# Altium integrated library Altera APEX 20K.IntLib: 93 symbols (part 6 of 14)
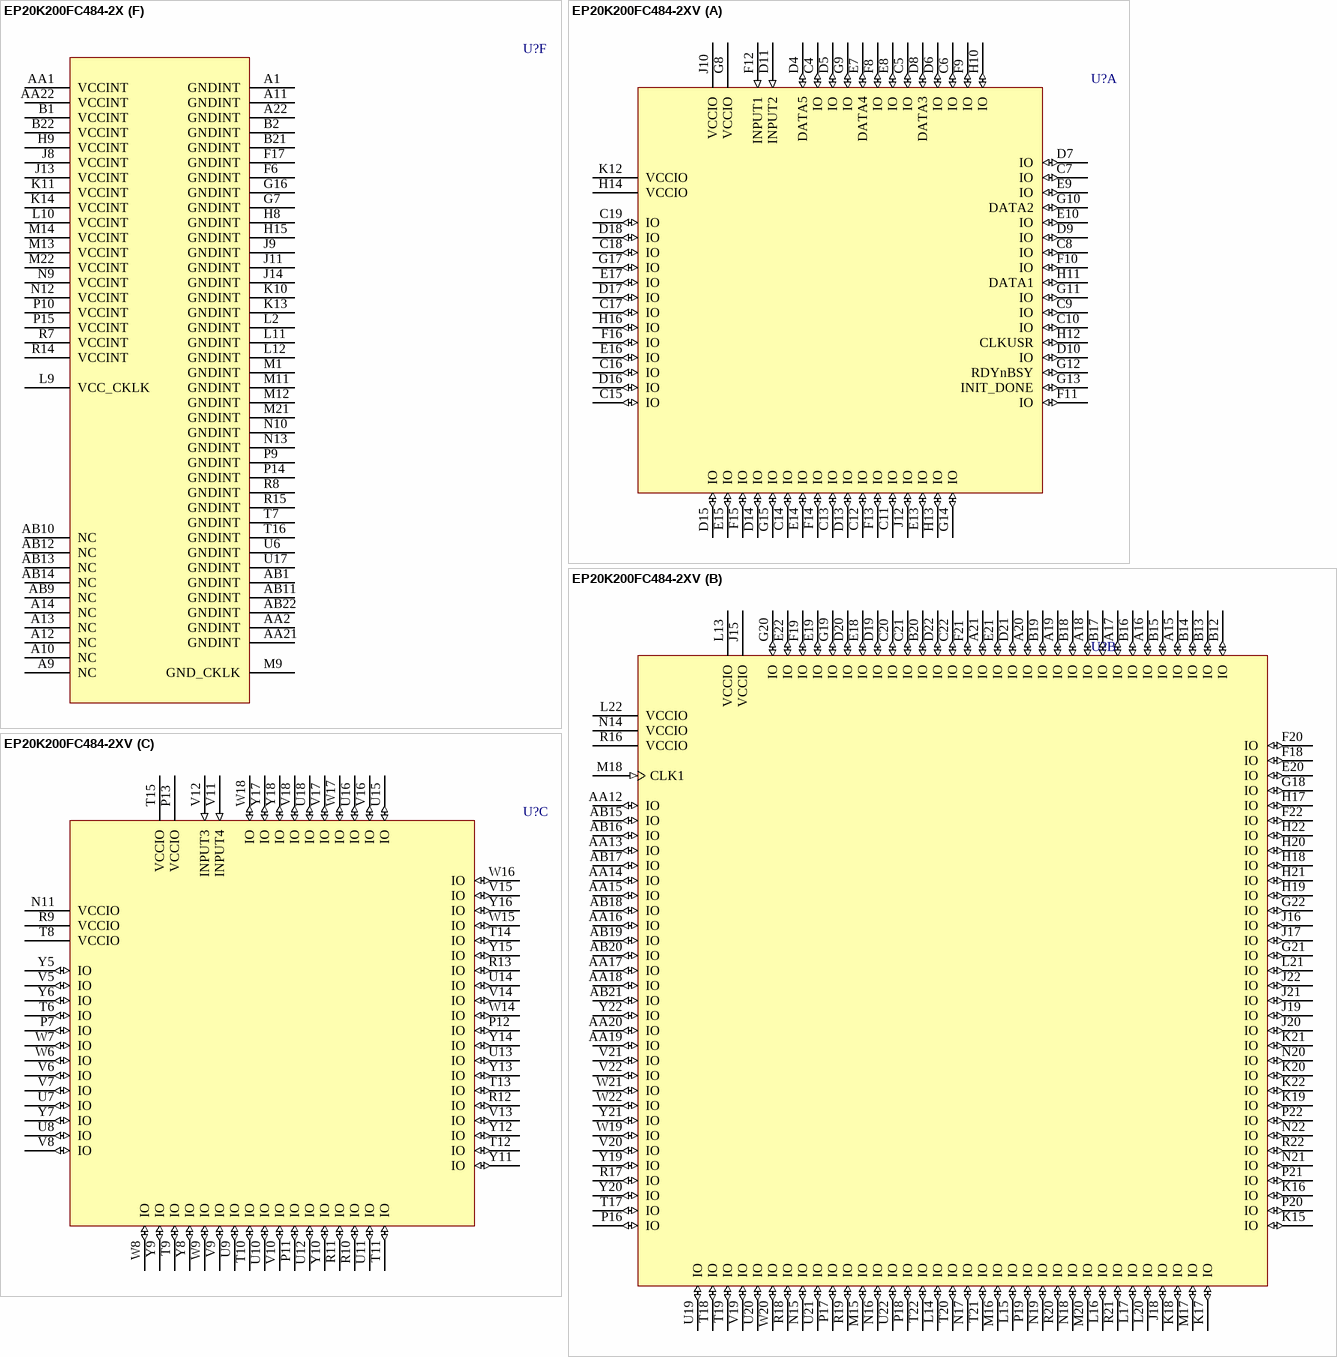
[diagram p207: symbols EP20K200FC484-2X to EP20K200FC484-2XV]

## EP20K200FC484-2X
designator U?
APEX 20K200 PLD with PLLs, 484-Pin FBGA, Commercial Grade, Speed Grade 2; Published: 17-Jul-2002; LatestRevisionDate: 13-Apr-2006; LatestRevisionNote: IPC-7351 Footprint Added.; DatasheetVersion: ver5.1, Mar-2004; PackageVersion: ver16.0, Dec-2009; PackageReference: FBGA484; Publisher: Altium Limited; PackageDescription: 484-Ball FineLine Ball Grid Array (FBGA484) - Flip Chip; Code_JEDEC: MS-034-AAJ-1; Code_IPC: BGA100P22X22-484; ComponentLink1Description: Manufacturer Link; ComponentLink1URL: http://www.altera.com/products/devices/apex/apx-index.html; ComponentLink2Description: Datasheet; ComponentLink2URL: http://www.altera.com/literature/ds/apex.pdf
footprint FBGA484 (BGA, 484-Leads, Body 23x23mm, Pitch 1mm)
3D model EP20K200-FBGA484 (484-Ball FineLine Ball Grid Array (FBGA484) - Flip Chip)
part A pins: C4 IO (io), C5 IO (io), C6 IO (io), C7 IO (io), C8 IO (io), C9 IO (io), C10 IO (io), C11 IO (io), C12 IO (io), C13 IO (io), C14 IO (io), C15 IO (io), C16 IO (io), C17 IO (io), C18 IO (io), C19 IO (io), D4 DATA5 (io), D5 IO (io), D6 IO (io), D7 IO (io), D8 DATA3 (io), D9 IO (io), D10 IO (io), D11 INPUT2 (in), D13 IO (io), D14 IO (io), D15 IO (io), D16 IO (io), D17 IO (io), D18 IO (io), E7 DATA4 (io), E8 IO (io), E9 IO (io), E10 IO (io), E13 IO (io), E14 IO (io), E15 IO (io), E16 IO (io), E17 IO (io), F8 IO (io), F9 IO (io), F10 IO (io), F11 IO (io), F12 INPUT1 (in), F13 IO (io), F14 IO (io), F15 IO (io), F16 IO (io), G8 VCCIO (power), G9 IO (io), G10 DATA2 (io), G11 IO (io), G12 RDYnBSY (io), G13 INIT_DONE (io), G14 IO (io), G15 IO (io), G17 IO (io), H10 IO (io), H11 DATA1 (io), H12 CLKUSR (io), H13 IO (io), H14 VCCIO (power), H16 IO (io), J10 VCCIO (power), J12 IO (io), K12 VCCIO (power)
part B pins: A15 IO (io), A16 IO (io), A17 IO (io), A18 IO (io), A19 IO (io), A20 IO (io), A21 IO (io), AA12 IO (io), AA13 IO (io), AA14 IO (io), AA15 IO (io), AA16 IO (io), AA17 IO (io), AA18 IO (io), AA19 IO (io), AA20 IO (io), AB15 IO (io), AB16 IO (io), AB17 IO (io), AB18 IO (io), AB19 IO (io), AB20 IO (io), AB21 IO (io), B12 IO (io), B13 IO (io), B14 IO (io), B15 IO (io), B16 IO (io), B17 IO (io), B18 IO (io), B19 IO (io), B20 IO (io), C20 IO (io), C21 IO (io), C22 IO (io), D19 IO (io), D20 IO (io), D21 IO (io), D22 IO (io), E18 IO (io), E19 IO (io), E20 IO (io), E21 IO (io), E22 IO (io), F18 IO (io), F19 IO (io), F20 IO (io), F21 IO (io), F22 IO (io), G18 IO (io), G19 IO (io), G20 IO (io), G21 IO (io), G22 IO (io), H17 IO (io), H18 IO (io), H19 IO (io), H20 IO (io), H21 IO (io), H22 IO (io), J15 VCCIO (power), J16 IO (io), J17 IO (io), J18 IO (io), J19 IO (io), J20 IO (io), J21 IO (io), J22 IO (io), K15 IO (io), K16 IO (io), K17 IO (io), K18 IO (io), K19 IO (io), K20 IO (io), K21 IO (io), K22 IO (io), L13 VCCIO (power), L14 IO (io), L15 IO (io), L16 IO (io), L17 IO (io), L20 IO (io), L21 IO (io), L22 VCCIO (power), M15 IO (io), M16 IO (io), M17 IO (io), M18 CLK1 (in), M20 IO (io), N14 VCCIO (power), N15 IO (io), N16 IO (io), N17 IO (io), N18 IO (io), N19 IO (io), N20 IO (io), N21 IO (io), N22 IO (io), P16 IO (io), P17 IO (io), P18 IO (io), P19 IO (io), P20 IO (io), P21 IO (io), P22 IO (io), R16 VCCIO (power), R17 IO (io), R18 IO (io), R19 IO (io), R20 IO (io), R21 IO (io), R22 IO (io), T17 IO (io), T18 IO (io), T19 IO (io), T20 IO (io), T21 IO (io), T22 IO (io), U19 IO (io), U20 IO (io), U21 IO (io), U22 IO (io), V19 IO (io), V20 IO (io), V21 IO (io), V22 IO (io), W19 IO (io), W20 IO (io), W21 IO (io), W22 IO (io), Y19 IO (io), Y20 IO (io), Y21 IO (io), Y22 IO (io)
part C pins: N11 VCCIO (power), P7 IO (io), P11 IO (io), P12 IO (io), P13 VCCIO (power), R9 VCCIO (power), R10 IO (io), R11 IO (io), R12 IO (io), R13 IO (io), T6 IO (io), T8 VCCIO (power), T9 IO (io), T10 IO (io), T11 IO (io), T12 IO (io), T13 IO (io), T14 IO (io), T15 VCCIO (power), U7 IO (io), U8 IO (io), U9 IO (io), U10 IO (io), U11 IO (io), U12 IO (io), U13 IO (io), U14 IO (io), U15 IO (io), U16 IO (io), U18 IO (io), V5 IO (io), V6 IO (io), V7 IO (io), V8 IO (io), V9 IO (io), V10 IO (io), V11 INPUT4 (in), V12 INPUT3 (in), V13 IO (io), V14 IO (io), V15 IO (io), V16 IO (io), V17 IO (io), V18 IO (io), W6 IO (io), W7 IO (io), W8 IO (io), W9 IO (io), W14 IO (io), W15 IO (io), W16 IO (io), W17 IO (io), W18 IO (io), Y5 IO (io), Y6 IO (io), Y7 IO (io), Y8 IO (io), Y9 IO (io), Y10 IO (io), Y11 IO (io), Y12 IO (io), Y13 IO (io), Y14 IO (io), Y15 IO (io), Y16 IO (io), Y17 IO (io), Y18 IO (io)
part D pins: A2 IO (io), A3 IO (io), A4 IO (io), A5 IO (io), A6 IO (io), A7 IO (io), A8 IO (io), AA3 IO (io), AA4 IO (io), AA5 IO (io), AA6 IO (io), AA7 IO (io), AA8 IO (io), AA9 IO (io), AA10 IO (io), AA11 IO (io), AB2 IO (io), AB3 IO (io), AB4 IO (io), AB5 IO (io), AB6 IO (io), AB7 IO (io), AB8 IO (io), B3 IO (io), B4 IO (io), B5 IO (io), B6 IO (io), B7 IO (io), B8 IO (io), B9 IO (io), B10 IO (io), B11 IO (io), C1 IO (io), C2 IO (io), C3 IO (io), D1 IO (io), D2 IO (io), D3 IO (io), E1 IO (io), E2 IO (io), E3 IO (io), E4 IO (io), E5 IO (io), E6 IO (io), F1 IO (io), F2 IO (io), F3 IO (io), F4 IO (io), F5 IO (io), F7 IO (io), G1 IO (io), G2 IO (io), G3 IO (io), G4 IO (io), G5 IO (io), G6 IO (io), H1 IO (io), H2 IO (io), H3 IO (io), H4 IO (io), H5 IO (io), H6 IO (io), H7 VCCIO (power), J1 IO (io), J2 IO (io), J3 IO (io), J4 IO (io), J5 IO (io), J6 DATA6 (io), J7 IO (io), K1 IO (io), K2 IO (io), K3 IO (io), K4 IO (io), K5 IO (io), K6 IO (io), K7 nCS (io), K8 DATA7 (io), K9 VCCIO (power), L1 VCCIO (power), L3 IO (io), L6 CLK2 (in), L7 IO (io), L8 nRS (io), M2 IO (io), M3 IO (io), M6 IO (io), M7 nWS (io), M8 IO (io), M10 VCCIO (power), N1 IO (io), N2 IO (io), N3 IO (io), N4 IO (io), N5 IO (io), N6 DEV_OE (io), N7 DEV_CLRn (io), N8 IO (io), P1 IO (io), P2 IO (io), P3 IO (io), P4 CS (io), P5 IO (io), P6 IO (io), P8 VCCIO (power), R1 IO (io), R2 IO (io), R3 IO (io), R4 LOCK (io), R5 IO (io), R6 IO (io), T1 IO (io), T2 IO (io), T3 IO (io), T4 IO (io), T5 IO (io), U1 IO (io), U2 IO (io), U3 IO (io), U4 IO (io), U5 IO (io), V1 IO (io), V2 IO (io), V3 IO (io), V4 IO (io), W1 IO (io), W2 IO (io), W3 IO (io), W4 IO (io), W5 IO (io), Y1 IO (io), Y2 IO (io), Y3 IO (io), Y4 IO (io)
part E pins: D12 TRST (in), E11 TDO (out), E12 nCEO (out), L4 DATA0 (in), L5 DCLK (in), L18 MSEL1 (in), L19 MSEL0 (in), M4 nCE (in), M5 TDI (in), M19 nCONFIG (in), W10 CONF_DONE (io), W11 nSTATUS (io), W12 TCK (in), W13 TMS (in)
part F pins: A1 GNDINT (power), A9 NC, A10 NC, A11 GNDINT (power), A12 NC, A13 NC, A14 NC, A22 GNDINT (power), AA1 VCCINT (power), AA2 GNDINT (power), AA21 GNDINT (power), AA22 VCCINT (power), AB1 GNDINT (power), AB9 NC, AB10 NC, AB11 GNDINT (power), AB12 NC, AB13 NC, AB14 NC, AB22 GNDINT (power), B1 VCCINT (power), B2 GNDINT (power), B21 GNDINT (power), B22 VCCINT (power), F6 GNDINT (power), F17 GNDINT (power), G7 GNDINT (power), G16 GNDINT (power), H8 GNDINT (power), H9 VCCINT (power), H15 GNDINT (power), J8 VCCINT (power), J9 GNDINT (power), J11 GNDINT (power), J13 VCCINT (power), J14 GNDINT (power), K10 GNDINT (power), K11 VCCINT (power), K13 GNDINT (power), K14 VCCINT (power), L2 GNDINT (power), L9 VCC_CKLK (power), L10 VCCINT (power), L11 GNDINT (power), L12 GNDINT (power), M1 GNDINT (power), M9 GND_CKLK (power), M11 GNDINT (power), M12 GNDINT (power), M13 VCCINT (power), M14 VCCINT (power), M21 GNDINT (power), M22 VCCINT (power), N9 VCCINT (power), N10 GNDINT (power), N12 VCCINT (power), N13 GNDINT (power), P9 GNDINT (power), P10 VCCINT (power), P14 GNDINT (power), P15 VCCINT (power), R7 VCCINT (power), R8 GNDINT (power), R14 VCCINT (power), R15 GNDINT (power), T7 GNDINT (power), T16 GNDINT (power), U6 GNDINT (power), U17 GNDINT (power)

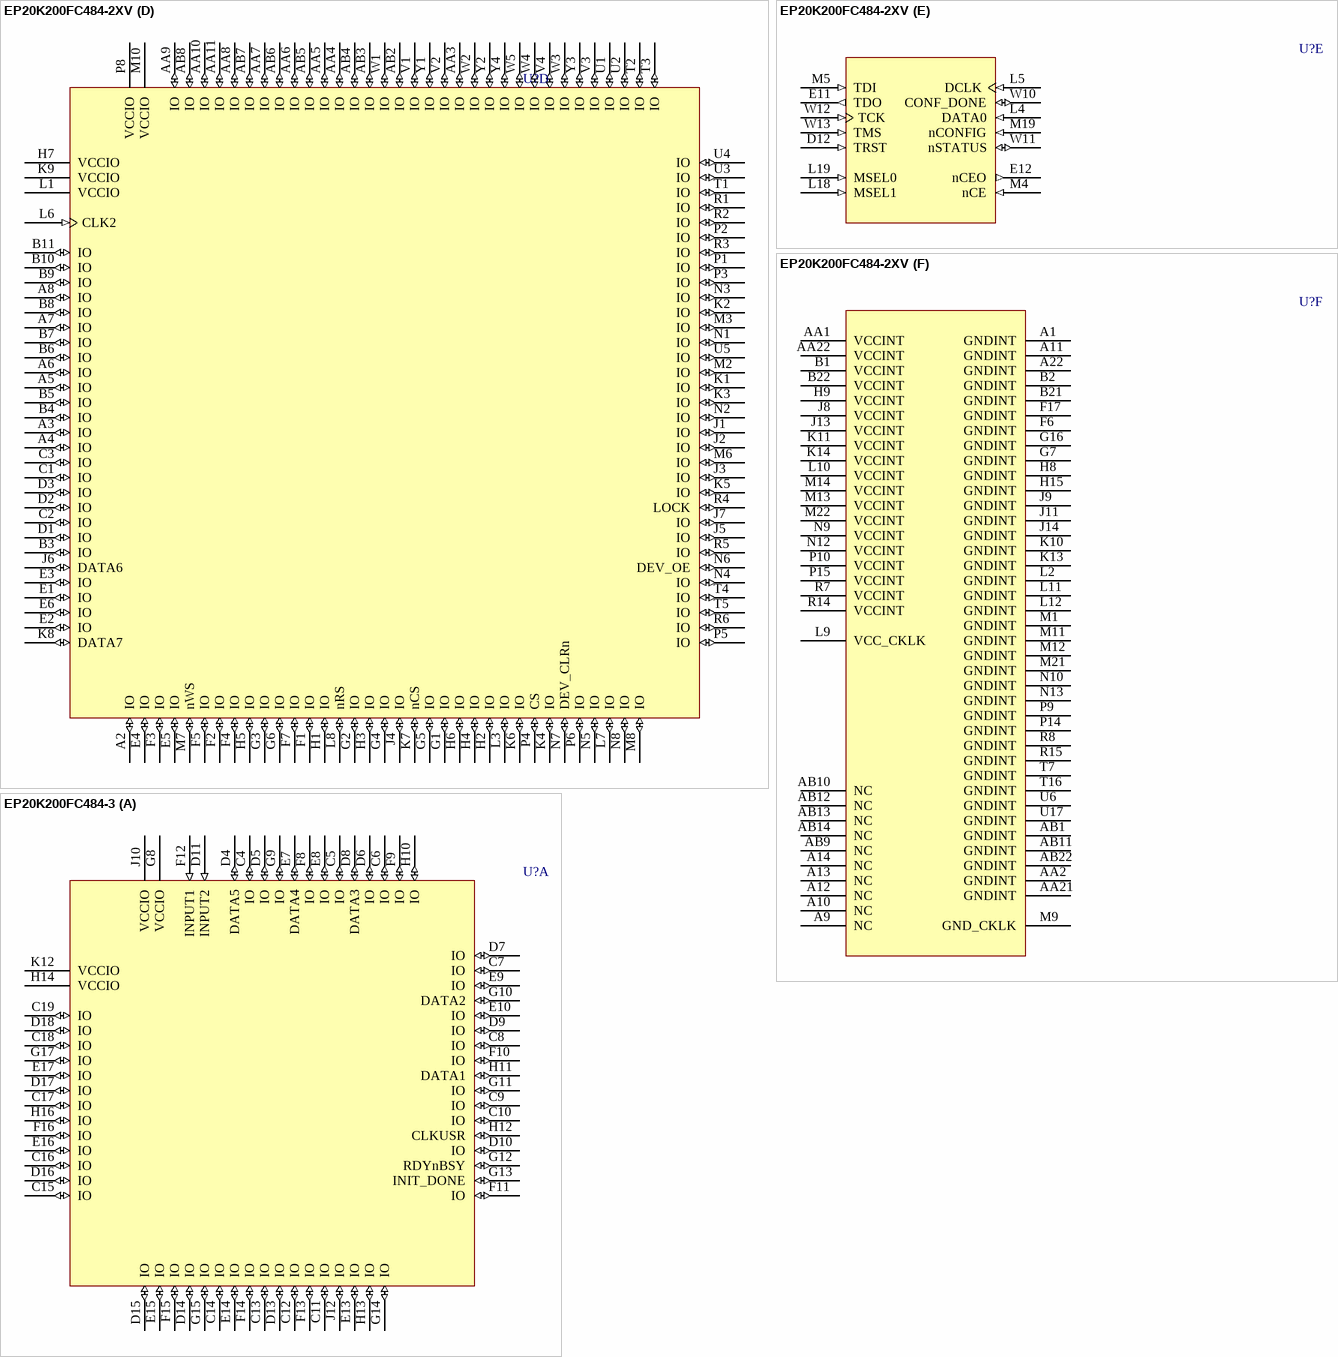
[diagram p65: symbols EP20K200FC484-2XV to EP20K200FC484-3]

## EP20K200FC484-2XV
designator U?
APEX 20K200 PLD with PLLs and 5 V tolerant inputs, 484-Pin FBGA, Commercial Grade, Speed Grade 2; Published: 17-Jul-2002; LatestRevisionDate: 13-Apr-2006; LatestRevisionNote: IPC-7351 Footprint Added.; DatasheetVersion: ver5.1, Mar-2004; PackageVersion: ver16.0, Dec-2009; PackageReference: FBGA484; Publisher: Altium Limited; PackageDescription: 484-Ball FineLine Ball Grid Array (FBGA484) - Flip Chip; Code_JEDEC: MS-034-AAJ-1; Code_IPC: BGA100P22X22-484; ComponentLink1Description: Manufacturer Link; ComponentLink1URL: http://www.altera.com/products/devices/apex/apx-index.html; ComponentLink2Description: Datasheet; ComponentLink2URL: http://www.altera.com/literature/ds/apex.pdf
footprint FBGA484 (BGA, 484-Leads, Body 23x23mm, Pitch 1mm)
3D model EP20K200-FBGA484 (484-Ball FineLine Ball Grid Array (FBGA484) - Flip Chip)
part A pins: C4 IO (io), C5 IO (io), C6 IO (io), C7 IO (io), C8 IO (io), C9 IO (io), C10 IO (io), C11 IO (io), C12 IO (io), C13 IO (io), C14 IO (io), C15 IO (io), C16 IO (io), C17 IO (io), C18 IO (io), C19 IO (io), D4 DATA5 (io), D5 IO (io), D6 IO (io), D7 IO (io), D8 DATA3 (io), D9 IO (io), D10 IO (io), D11 INPUT2 (in), D13 IO (io), D14 IO (io), D15 IO (io), D16 IO (io), D17 IO (io), D18 IO (io), E7 DATA4 (io), E8 IO (io), E9 IO (io), E10 IO (io), E13 IO (io), E14 IO (io), E15 IO (io), E16 IO (io), E17 IO (io), F8 IO (io), F9 IO (io), F10 IO (io), F11 IO (io), F12 INPUT1 (in), F13 IO (io), F14 IO (io), F15 IO (io), F16 IO (io), G8 VCCIO (power), G9 IO (io), G10 DATA2 (io), G11 IO (io), G12 RDYnBSY (io), G13 INIT_DONE (io), G14 IO (io), G15 IO (io), G17 IO (io), H10 IO (io), H11 DATA1 (io), H12 CLKUSR (io), H13 IO (io), H14 VCCIO (power), H16 IO (io), J10 VCCIO (power), J12 IO (io), K12 VCCIO (power)
part B pins: A15 IO (io), A16 IO (io), A17 IO (io), A18 IO (io), A19 IO (io), A20 IO (io), A21 IO (io), AA12 IO (io), AA13 IO (io), AA14 IO (io), AA15 IO (io), AA16 IO (io), AA17 IO (io), AA18 IO (io), AA19 IO (io), AA20 IO (io), AB15 IO (io), AB16 IO (io), AB17 IO (io), AB18 IO (io), AB19 IO (io), AB20 IO (io), AB21 IO (io), B12 IO (io), B13 IO (io), B14 IO (io), B15 IO (io), B16 IO (io), B17 IO (io), B18 IO (io), B19 IO (io), B20 IO (io), C20 IO (io), C21 IO (io), C22 IO (io), D19 IO (io), D20 IO (io), D21 IO (io), D22 IO (io), E18 IO (io), E19 IO (io), E20 IO (io), E21 IO (io), E22 IO (io), F18 IO (io), F19 IO (io), F20 IO (io), F21 IO (io), F22 IO (io), G18 IO (io), G19 IO (io), G20 IO (io), G21 IO (io), G22 IO (io), H17 IO (io), H18 IO (io), H19 IO (io), H20 IO (io), H21 IO (io), H22 IO (io), J15 VCCIO (power), J16 IO (io), J17 IO (io), J18 IO (io), J19 IO (io), J20 IO (io), J21 IO (io), J22 IO (io), K15 IO (io), K16 IO (io), K17 IO (io), K18 IO (io), K19 IO (io), K20 IO (io), K21 IO (io), K22 IO (io), L13 VCCIO (power), L14 IO (io), L15 IO (io), L16 IO (io), L17 IO (io), L20 IO (io), L21 IO (io), L22 VCCIO (power), M15 IO (io), M16 IO (io), M17 IO (io), M18 CLK1 (in), M20 IO (io), N14 VCCIO (power), N15 IO (io), N16 IO (io), N17 IO (io), N18 IO (io), N19 IO (io), N20 IO (io), N21 IO (io), N22 IO (io), P16 IO (io), P17 IO (io), P18 IO (io), P19 IO (io), P20 IO (io), P21 IO (io), P22 IO (io), R16 VCCIO (power), R17 IO (io), R18 IO (io), R19 IO (io), R20 IO (io), R21 IO (io), R22 IO (io), T17 IO (io), T18 IO (io), T19 IO (io), T20 IO (io), T21 IO (io), T22 IO (io), U19 IO (io), U20 IO (io), U21 IO (io), U22 IO (io), V19 IO (io), V20 IO (io), V21 IO (io), V22 IO (io), W19 IO (io), W20 IO (io), W21 IO (io), W22 IO (io), Y19 IO (io), Y20 IO (io), Y21 IO (io), Y22 IO (io)
part C pins: N11 VCCIO (power), P7 IO (io), P11 IO (io), P12 IO (io), P13 VCCIO (power), R9 VCCIO (power), R10 IO (io), R11 IO (io), R12 IO (io), R13 IO (io), T6 IO (io), T8 VCCIO (power), T9 IO (io), T10 IO (io), T11 IO (io), T12 IO (io), T13 IO (io), T14 IO (io), T15 VCCIO (power), U7 IO (io), U8 IO (io), U9 IO (io), U10 IO (io), U11 IO (io), U12 IO (io), U13 IO (io), U14 IO (io), U15 IO (io), U16 IO (io), U18 IO (io), V5 IO (io), V6 IO (io), V7 IO (io), V8 IO (io), V9 IO (io), V10 IO (io), V11 INPUT4 (in), V12 INPUT3 (in), V13 IO (io), V14 IO (io), V15 IO (io), V16 IO (io), V17 IO (io), V18 IO (io), W6 IO (io), W7 IO (io), W8 IO (io), W9 IO (io), W14 IO (io), W15 IO (io), W16 IO (io), W17 IO (io), W18 IO (io), Y5 IO (io), Y6 IO (io), Y7 IO (io), Y8 IO (io), Y9 IO (io), Y10 IO (io), Y11 IO (io), Y12 IO (io), Y13 IO (io), Y14 IO (io), Y15 IO (io), Y16 IO (io), Y17 IO (io), Y18 IO (io)
part D pins: A2 IO (io), A3 IO (io), A4 IO (io), A5 IO (io), A6 IO (io), A7 IO (io), A8 IO (io), AA3 IO (io), AA4 IO (io), AA5 IO (io), AA6 IO (io), AA7 IO (io), AA8 IO (io), AA9 IO (io), AA10 IO (io), AA11 IO (io), AB2 IO (io), AB3 IO (io), AB4 IO (io), AB5 IO (io), AB6 IO (io), AB7 IO (io), AB8 IO (io), B3 IO (io), B4 IO (io), B5 IO (io), B6 IO (io), B7 IO (io), B8 IO (io), B9 IO (io), B10 IO (io), B11 IO (io), C1 IO (io), C2 IO (io), C3 IO (io), D1 IO (io), D2 IO (io), D3 IO (io), E1 IO (io), E2 IO (io), E3 IO (io), E4 IO (io), E5 IO (io), E6 IO (io), F1 IO (io), F2 IO (io), F3 IO (io), F4 IO (io), F5 IO (io), F7 IO (io), G1 IO (io), G2 IO (io), G3 IO (io), G4 IO (io), G5 IO (io), G6 IO (io), H1 IO (io), H2 IO (io), H3 IO (io), H4 IO (io), H5 IO (io), H6 IO (io), H7 VCCIO (power), J1 IO (io), J2 IO (io), J3 IO (io), J4 IO (io), J5 IO (io), J6 DATA6 (io), J7 IO (io), K1 IO (io), K2 IO (io), K3 IO (io), K4 IO (io), K5 IO (io), K6 IO (io), K7 nCS (io), K8 DATA7 (io), K9 VCCIO (power), L1 VCCIO (power), L3 IO (io), L6 CLK2 (in), L7 IO (io), L8 nRS (io), M2 IO (io), M3 IO (io), M6 IO (io), M7 nWS (io), M8 IO (io), M10 VCCIO (power), N1 IO (io), N2 IO (io), N3 IO (io), N4 IO (io), N5 IO (io), N6 DEV_OE (io), N7 DEV_CLRn (io), N8 IO (io), P1 IO (io), P2 IO (io), P3 IO (io), P4 CS (io), P5 IO (io), P6 IO (io), P8 VCCIO (power), R1 IO (io), R2 IO (io), R3 IO (io), R4 LOCK (io), R5 IO (io), R6 IO (io), T1 IO (io), T2 IO (io), T3 IO (io), T4 IO (io), T5 IO (io), U1 IO (io), U2 IO (io), U3 IO (io), U4 IO (io), U5 IO (io), V1 IO (io), V2 IO (io), V3 IO (io), V4 IO (io), W1 IO (io), W2 IO (io), W3 IO (io), W4 IO (io), W5 IO (io), Y1 IO (io), Y2 IO (io), Y3 IO (io), Y4 IO (io)
part E pins: D12 TRST (in), E11 TDO (out), E12 nCEO (out), L4 DATA0 (in), L5 DCLK (in), L18 MSEL1 (in), L19 MSEL0 (in), M4 nCE (in), M5 TDI (in), M19 nCONFIG (in), W10 CONF_DONE (io), W11 nSTATUS (io), W12 TCK (in), W13 TMS (in)
part F pins: A1 GNDINT (power), A9 NC, A10 NC, A11 GNDINT (power), A12 NC, A13 NC, A14 NC, A22 GNDINT (power), AA1 VCCINT (power), AA2 GNDINT (power), AA21 GNDINT (power), AA22 VCCINT (power), AB1 GNDINT (power), AB9 NC, AB10 NC, AB11 GNDINT (power), AB12 NC, AB13 NC, AB14 NC, AB22 GNDINT (power), B1 VCCINT (power), B2 GNDINT (power), B21 GNDINT (power), B22 VCCINT (power), F6 GNDINT (power), F17 GNDINT (power), G7 GNDINT (power), G16 GNDINT (power), H8 GNDINT (power), H9 VCCINT (power), H15 GNDINT (power), J8 VCCINT (power), J9 GNDINT (power), J11 GNDINT (power), J13 VCCINT (power), J14 GNDINT (power), K10 GNDINT (power), K11 VCCINT (power), K13 GNDINT (power), K14 VCCINT (power), L2 GNDINT (power), L9 VCC_CKLK (power), L10 VCCINT (power), L11 GNDINT (power), L12 GNDINT (power), M1 GNDINT (power), M9 GND_CKLK (power), M11 GNDINT (power), M12 GNDINT (power), M13 VCCINT (power), M14 VCCINT (power), M21 GNDINT (power), M22 VCCINT (power), N9 VCCINT (power), N10 GNDINT (power), N12 VCCINT (power), N13 GNDINT (power), P9 GNDINT (power), P10 VCCINT (power), P14 GNDINT (power), P15 VCCINT (power), R7 VCCINT (power), R8 GNDINT (power), R14 VCCINT (power), R15 GNDINT (power), T7 GNDINT (power), T16 GNDINT (power), U6 GNDINT (power), U17 GNDINT (power)

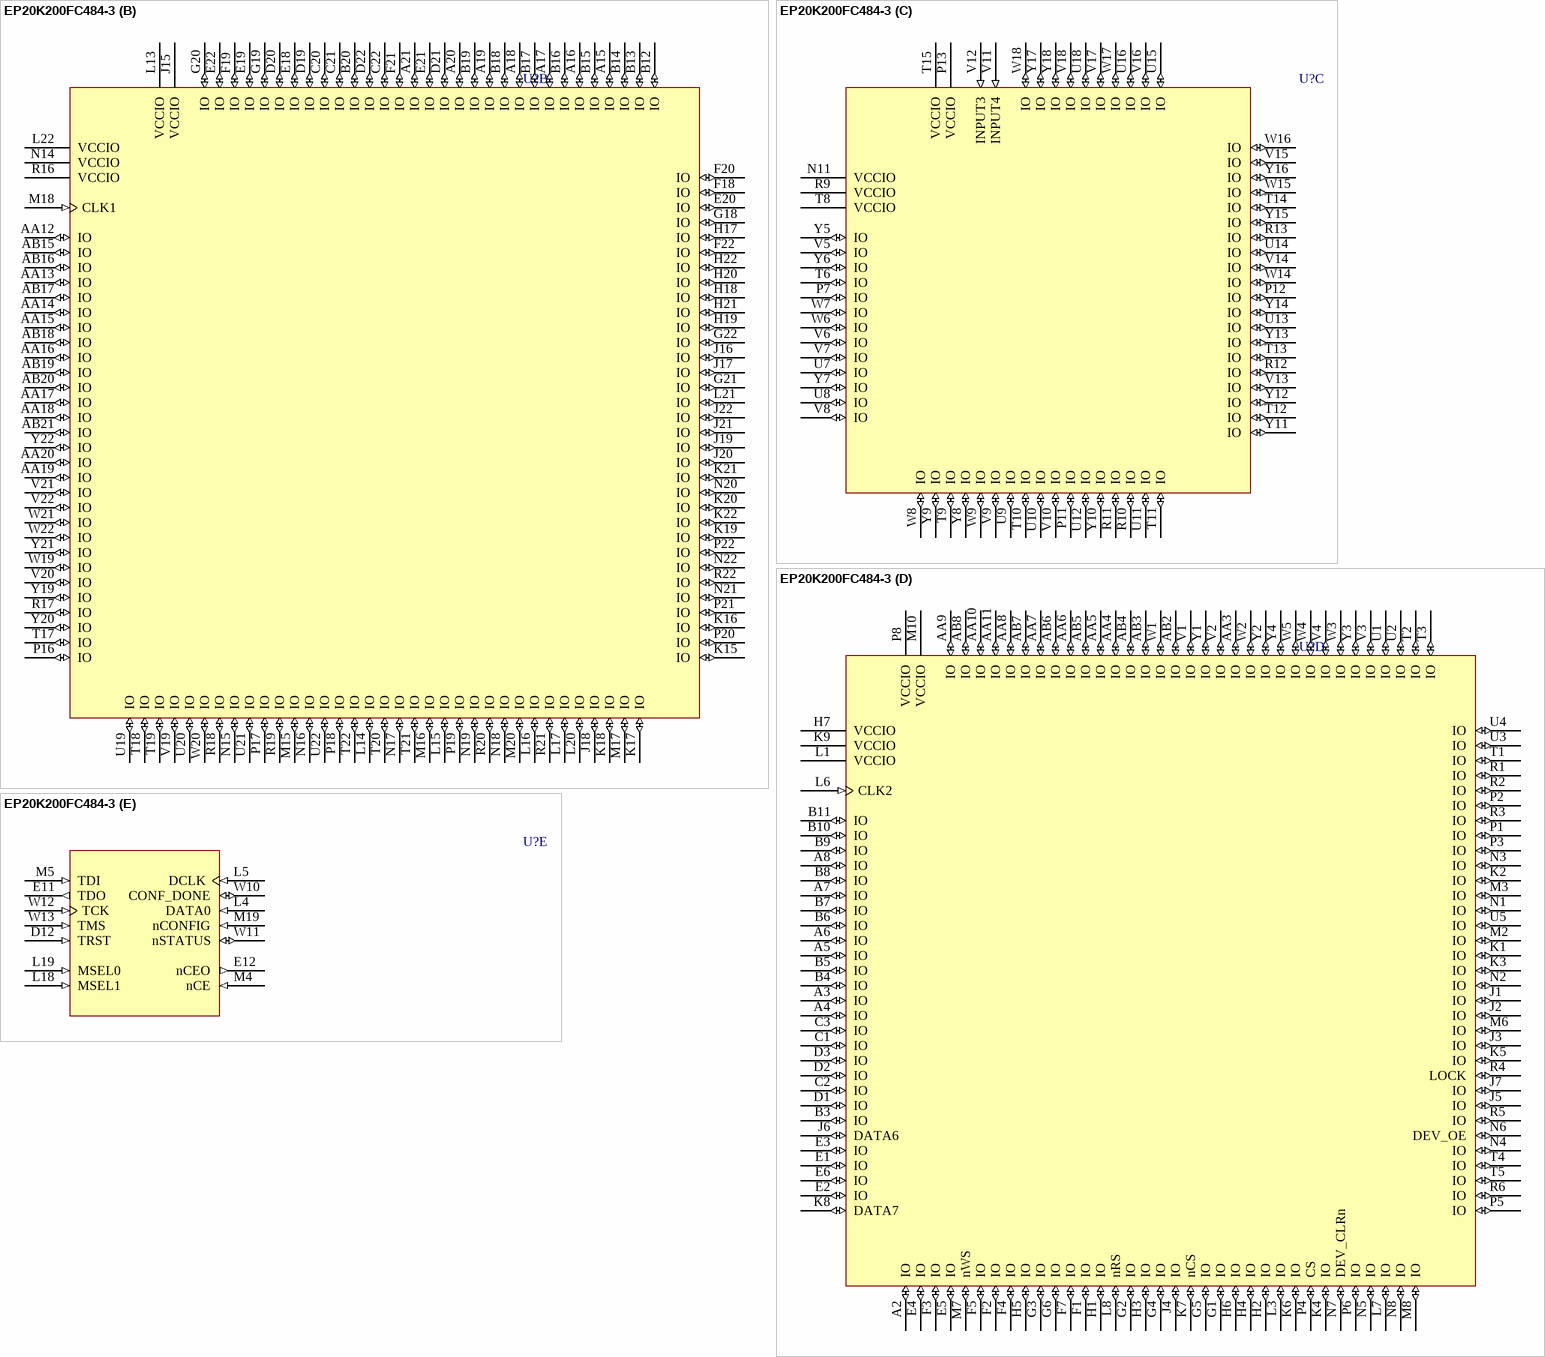
[diagram p66: symbol EP20K200FC484-3]

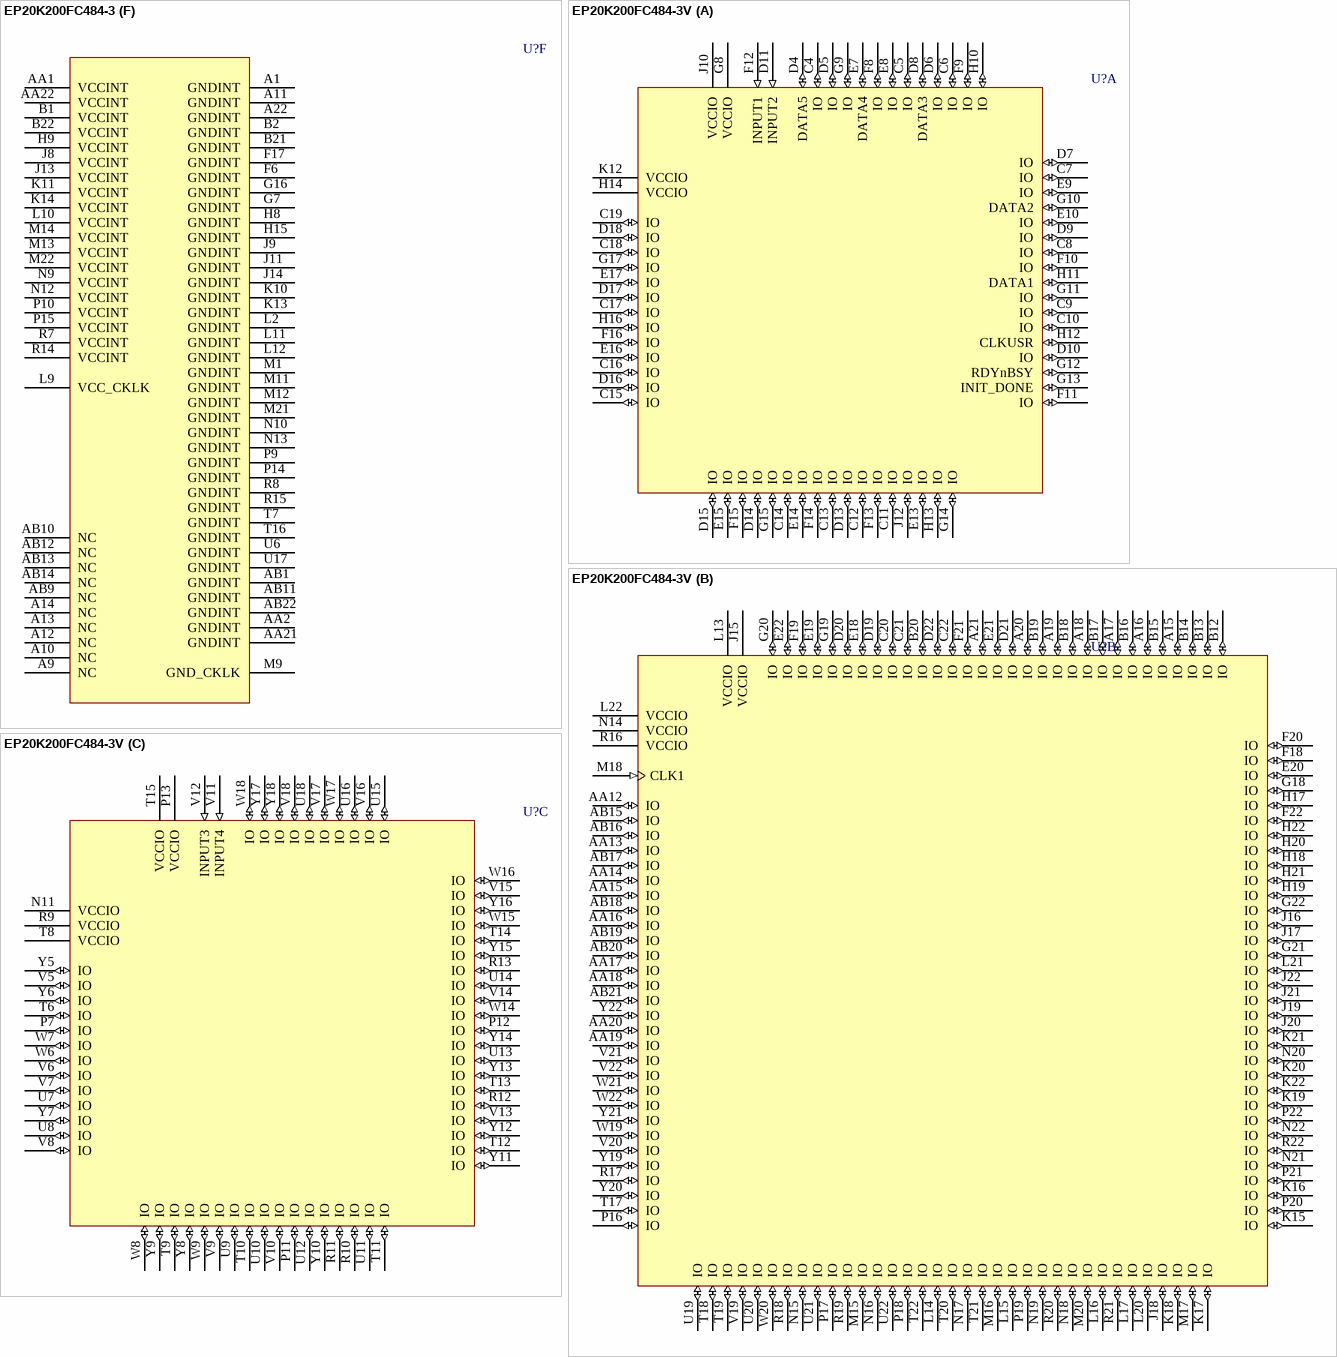
[diagram p67: symbols EP20K200FC484-3 to EP20K200FC484-3V]

## EP20K200FC484-3
designator U?
APEX 20K200 PLD, 484-Pin FBGA, Commercial Grade, Speed Grade 3; Published: 17-Jul-2002; LatestRevisionDate: 13-Apr-2006; LatestRevisionNote: IPC-7351 Footprint Added.; DatasheetVersion: ver5.1, Mar-2004; PackageVersion: ver16.0, Dec-2009; PackageReference: FBGA484; Publisher: Altium Limited; PackageDescription: 484-Ball FineLine Ball Grid Array (FBGA484) - Flip Chip; Code_JEDEC: MS-034-AAJ-1; Code_IPC: BGA100P22X22-484; ComponentLink1Description: Manufacturer Link; ComponentLink1URL: http://www.altera.com/products/devices/apex/apx-index.html; ComponentLink2Description: Datasheet; ComponentLink2URL: http://www.altera.com/literature/ds/apex.pdf
footprint FBGA484 (BGA, 484-Leads, Body 23x23mm, Pitch 1mm)
3D model EP20K200-FBGA484 (484-Ball FineLine Ball Grid Array (FBGA484) - Flip Chip)
part A pins: C4 IO (io), C5 IO (io), C6 IO (io), C7 IO (io), C8 IO (io), C9 IO (io), C10 IO (io), C11 IO (io), C12 IO (io), C13 IO (io), C14 IO (io), C15 IO (io), C16 IO (io), C17 IO (io), C18 IO (io), C19 IO (io), D4 DATA5 (io), D5 IO (io), D6 IO (io), D7 IO (io), D8 DATA3 (io), D9 IO (io), D10 IO (io), D11 INPUT2 (in), D13 IO (io), D14 IO (io), D15 IO (io), D16 IO (io), D17 IO (io), D18 IO (io), E7 DATA4 (io), E8 IO (io), E9 IO (io), E10 IO (io), E13 IO (io), E14 IO (io), E15 IO (io), E16 IO (io), E17 IO (io), F8 IO (io), F9 IO (io), F10 IO (io), F11 IO (io), F12 INPUT1 (in), F13 IO (io), F14 IO (io), F15 IO (io), F16 IO (io), G8 VCCIO (power), G9 IO (io), G10 DATA2 (io), G11 IO (io), G12 RDYnBSY (io), G13 INIT_DONE (io), G14 IO (io), G15 IO (io), G17 IO (io), H10 IO (io), H11 DATA1 (io), H12 CLKUSR (io), H13 IO (io), H14 VCCIO (power), H16 IO (io), J10 VCCIO (power), J12 IO (io), K12 VCCIO (power)
part B pins: A15 IO (io), A16 IO (io), A17 IO (io), A18 IO (io), A19 IO (io), A20 IO (io), A21 IO (io), AA12 IO (io), AA13 IO (io), AA14 IO (io), AA15 IO (io), AA16 IO (io), AA17 IO (io), AA18 IO (io), AA19 IO (io), AA20 IO (io), AB15 IO (io), AB16 IO (io), AB17 IO (io), AB18 IO (io), AB19 IO (io), AB20 IO (io), AB21 IO (io), B12 IO (io), B13 IO (io), B14 IO (io), B15 IO (io), B16 IO (io), B17 IO (io), B18 IO (io), B19 IO (io), B20 IO (io), C20 IO (io), C21 IO (io), C22 IO (io), D19 IO (io), D20 IO (io), D21 IO (io), D22 IO (io), E18 IO (io), E19 IO (io), E20 IO (io), E21 IO (io), E22 IO (io), F18 IO (io), F19 IO (io), F20 IO (io), F21 IO (io), F22 IO (io), G18 IO (io), G19 IO (io), G20 IO (io), G21 IO (io), G22 IO (io), H17 IO (io), H18 IO (io), H19 IO (io), H20 IO (io), H21 IO (io), H22 IO (io), J15 VCCIO (power), J16 IO (io), J17 IO (io), J18 IO (io), J19 IO (io), J20 IO (io), J21 IO (io), J22 IO (io), K15 IO (io), K16 IO (io), K17 IO (io), K18 IO (io), K19 IO (io), K20 IO (io), K21 IO (io), K22 IO (io), L13 VCCIO (power), L14 IO (io), L15 IO (io), L16 IO (io), L17 IO (io), L20 IO (io), L21 IO (io), L22 VCCIO (power), M15 IO (io), M16 IO (io), M17 IO (io), M18 CLK1 (in), M20 IO (io), N14 VCCIO (power), N15 IO (io), N16 IO (io), N17 IO (io), N18 IO (io), N19 IO (io), N20 IO (io), N21 IO (io), N22 IO (io), P16 IO (io), P17 IO (io), P18 IO (io), P19 IO (io), P20 IO (io), P21 IO (io), P22 IO (io), R16 VCCIO (power), R17 IO (io), R18 IO (io), R19 IO (io), R20 IO (io), R21 IO (io), R22 IO (io), T17 IO (io), T18 IO (io), T19 IO (io), T20 IO (io), T21 IO (io), T22 IO (io), U19 IO (io), U20 IO (io), U21 IO (io), U22 IO (io), V19 IO (io), V20 IO (io), V21 IO (io), V22 IO (io), W19 IO (io), W20 IO (io), W21 IO (io), W22 IO (io), Y19 IO (io), Y20 IO (io), Y21 IO (io), Y22 IO (io)
part C pins: N11 VCCIO (power), P7 IO (io), P11 IO (io), P12 IO (io), P13 VCCIO (power), R9 VCCIO (power), R10 IO (io), R11 IO (io), R12 IO (io), R13 IO (io), T6 IO (io), T8 VCCIO (power), T9 IO (io), T10 IO (io), T11 IO (io), T12 IO (io), T13 IO (io), T14 IO (io), T15 VCCIO (power), U7 IO (io), U8 IO (io), U9 IO (io), U10 IO (io), U11 IO (io), U12 IO (io), U13 IO (io), U14 IO (io), U15 IO (io), U16 IO (io), U18 IO (io), V5 IO (io), V6 IO (io), V7 IO (io), V8 IO (io), V9 IO (io), V10 IO (io), V11 INPUT4 (in), V12 INPUT3 (in), V13 IO (io), V14 IO (io), V15 IO (io), V16 IO (io), V17 IO (io), V18 IO (io), W6 IO (io), W7 IO (io), W8 IO (io), W9 IO (io), W14 IO (io), W15 IO (io), W16 IO (io), W17 IO (io), W18 IO (io), Y5 IO (io), Y6 IO (io), Y7 IO (io), Y8 IO (io), Y9 IO (io), Y10 IO (io), Y11 IO (io), Y12 IO (io), Y13 IO (io), Y14 IO (io), Y15 IO (io), Y16 IO (io), Y17 IO (io), Y18 IO (io)
part D pins: A2 IO (io), A3 IO (io), A4 IO (io), A5 IO (io), A6 IO (io), A7 IO (io), A8 IO (io), AA3 IO (io), AA4 IO (io), AA5 IO (io), AA6 IO (io), AA7 IO (io), AA8 IO (io), AA9 IO (io), AA10 IO (io), AA11 IO (io), AB2 IO (io), AB3 IO (io), AB4 IO (io), AB5 IO (io), AB6 IO (io), AB7 IO (io), AB8 IO (io), B3 IO (io), B4 IO (io), B5 IO (io), B6 IO (io), B7 IO (io), B8 IO (io), B9 IO (io), B10 IO (io), B11 IO (io), C1 IO (io), C2 IO (io), C3 IO (io), D1 IO (io), D2 IO (io), D3 IO (io), E1 IO (io), E2 IO (io), E3 IO (io), E4 IO (io), E5 IO (io), E6 IO (io), F1 IO (io), F2 IO (io), F3 IO (io), F4 IO (io), F5 IO (io), F7 IO (io), G1 IO (io), G2 IO (io), G3 IO (io), G4 IO (io), G5 IO (io), G6 IO (io), H1 IO (io), H2 IO (io), H3 IO (io), H4 IO (io), H5 IO (io), H6 IO (io), H7 VCCIO (power), J1 IO (io), J2 IO (io), J3 IO (io), J4 IO (io), J5 IO (io), J6 DATA6 (io), J7 IO (io), K1 IO (io), K2 IO (io), K3 IO (io), K4 IO (io), K5 IO (io), K6 IO (io), K7 nCS (io), K8 DATA7 (io), K9 VCCIO (power), L1 VCCIO (power), L3 IO (io), L6 CLK2 (in), L7 IO (io), L8 nRS (io), M2 IO (io), M3 IO (io), M6 IO (io), M7 nWS (io), M8 IO (io), M10 VCCIO (power), N1 IO (io), N2 IO (io), N3 IO (io), N4 IO (io), N5 IO (io), N6 DEV_OE (io), N7 DEV_CLRn (io), N8 IO (io), P1 IO (io), P2 IO (io), P3 IO (io), P4 CS (io), P5 IO (io), P6 IO (io), P8 VCCIO (power), R1 IO (io), R2 IO (io), R3 IO (io), R4 LOCK (io), R5 IO (io), R6 IO (io), T1 IO (io), T2 IO (io), T3 IO (io), T4 IO (io), T5 IO (io), U1 IO (io), U2 IO (io), U3 IO (io), U4 IO (io), U5 IO (io), V1 IO (io), V2 IO (io), V3 IO (io), V4 IO (io), W1 IO (io), W2 IO (io), W3 IO (io), W4 IO (io), W5 IO (io), Y1 IO (io), Y2 IO (io), Y3 IO (io), Y4 IO (io)
part E pins: D12 TRST (in), E11 TDO (out), E12 nCEO (out), L4 DATA0 (in), L5 DCLK (in), L18 MSEL1 (in), L19 MSEL0 (in), M4 nCE (in), M5 TDI (in), M19 nCONFIG (in), W10 CONF_DONE (io), W11 nSTATUS (io), W12 TCK (in), W13 TMS (in)
part F pins: A1 GNDINT (power), A9 NC, A10 NC, A11 GNDINT (power), A12 NC, A13 NC, A14 NC, A22 GNDINT (power), AA1 VCCINT (power), AA2 GNDINT (power), AA21 GNDINT (power), AA22 VCCINT (power), AB1 GNDINT (power), AB9 NC, AB10 NC, AB11 GNDINT (power), AB12 NC, AB13 NC, AB14 NC, AB22 GNDINT (power), B1 VCCINT (power), B2 GNDINT (power), B21 GNDINT (power), B22 VCCINT (power), F6 GNDINT (power), F17 GNDINT (power), G7 GNDINT (power), G16 GNDINT (power), H8 GNDINT (power), H9 VCCINT (power), H15 GNDINT (power), J8 VCCINT (power), J9 GNDINT (power), J11 GNDINT (power), J13 VCCINT (power), J14 GNDINT (power), K10 GNDINT (power), K11 VCCINT (power), K13 GNDINT (power), K14 VCCINT (power), L2 GNDINT (power), L9 VCC_CKLK (power), L10 VCCINT (power), L11 GNDINT (power), L12 GNDINT (power), M1 GNDINT (power), M9 GND_CKLK (power), M11 GNDINT (power), M12 GNDINT (power), M13 VCCINT (power), M14 VCCINT (power), M21 GNDINT (power), M22 VCCINT (power), N9 VCCINT (power), N10 GNDINT (power), N12 VCCINT (power), N13 GNDINT (power), P9 GNDINT (power), P10 VCCINT (power), P14 GNDINT (power), P15 VCCINT (power), R7 VCCINT (power), R8 GNDINT (power), R14 VCCINT (power), R15 GNDINT (power), T7 GNDINT (power), T16 GNDINT (power), U6 GNDINT (power), U17 GNDINT (power)

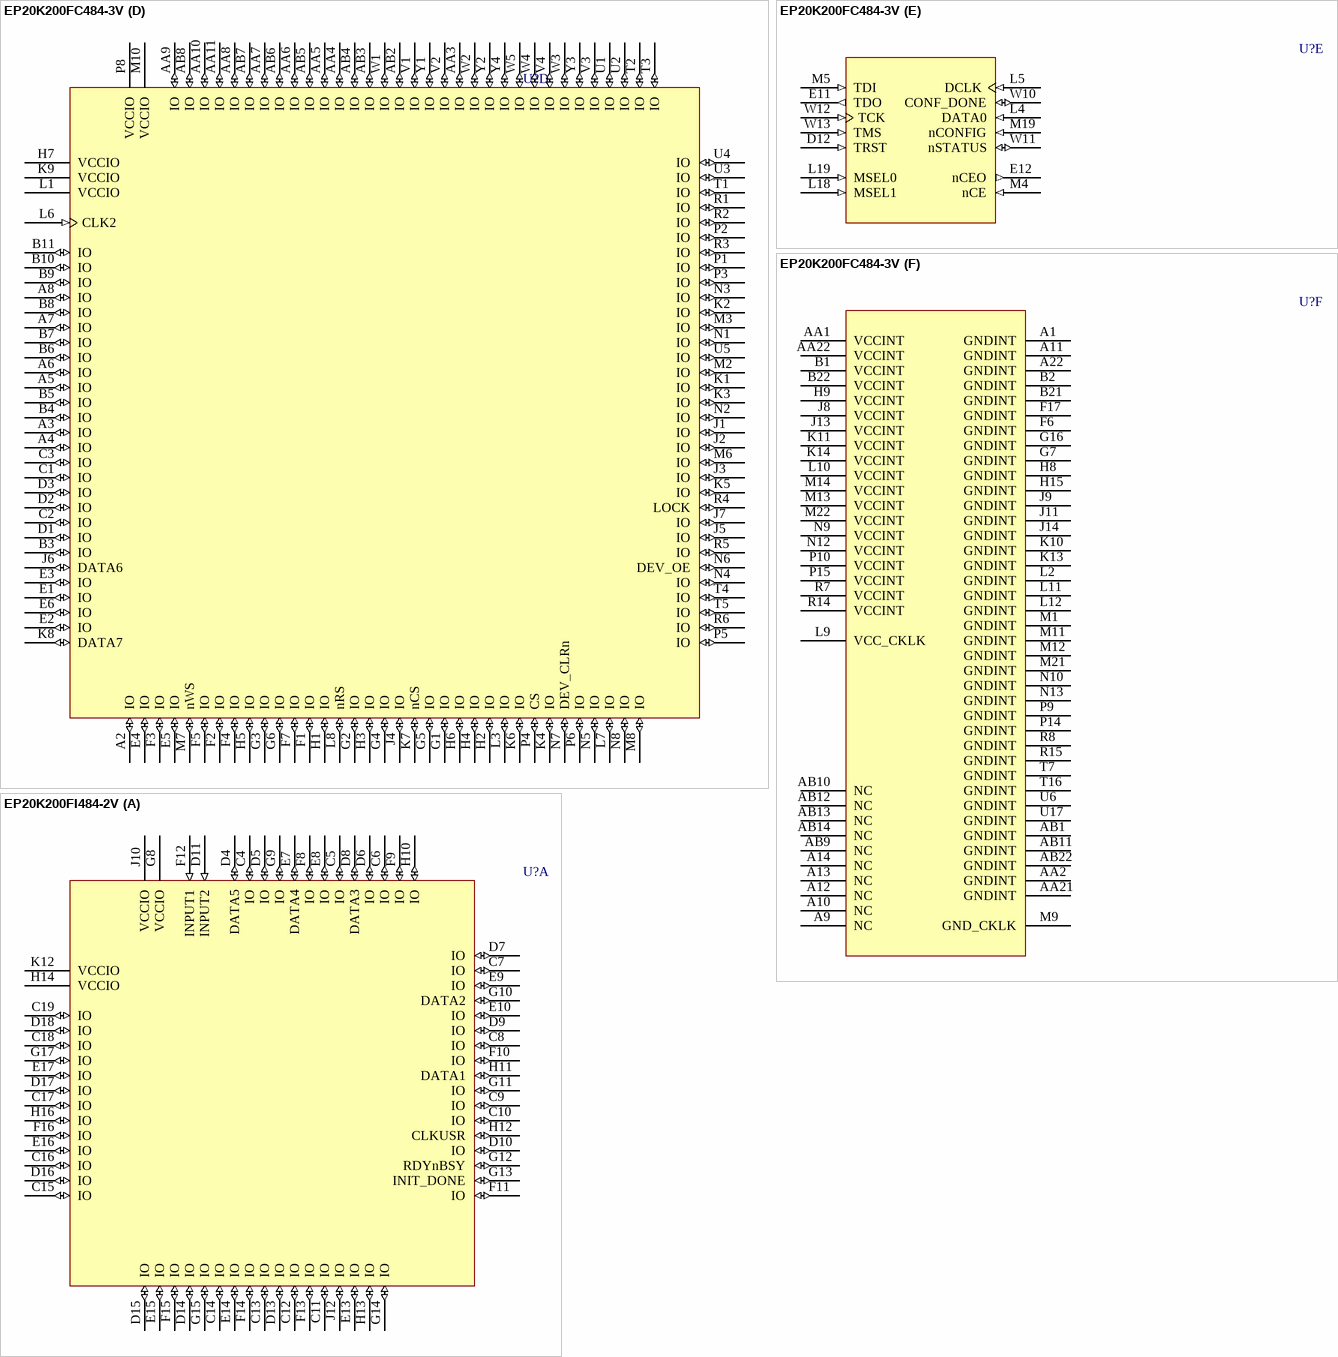
[diagram p68: symbols EP20K200FC484-3V to EP20K200FI484-2V]

## EP20K200FC484-3V
designator U?
APEX 20K200  PLD with 5 V tolerant inputs, 484-Pin FBGA, Commercial Grade, Speed Grade 3; ComponentAvailability: Last order accepted - 22-Jul-2005; Published: 17-Jul-2002; LatestRevisionDate: 13-Apr-2006; LatestRevisionNote: IPC-7351 Footprint Added.; DatasheetVersion: ver5.1, Mar-2004; PackageVersion: ver16.0, Dec-2009; PackageReference: FBGA484; Publisher: Altium Limited; PackageDescription: 484-Ball FineLine Ball Grid Array (FBGA484) - Flip Chip; Supplier 1: Digi-Key; Supplier Part Number 1: EP20K200FC484-3V-ND; Code_JEDEC: MS-034-AAJ-1; Code_IPC: BGA100P22X22-484; ComponentLink1Description: Manufacturer Link; ComponentLink1URL: http://www.altera.com/products/devices/apex/apx-index.html; ComponentLink2Description: Datasheet; ComponentLink2URL: http://www.altera.com/literature/ds/apex.pdf; ComponentLink3Description: Discontinuation Notice; ComponentLink3URL: http://www.altera.com/literature/pcn/pdn0401.pdf
footprint FBGA484 (BGA, 484-Leads, Body 23x23mm, Pitch 1mm)
3D model EP20K200-FBGA484 (484-Ball FineLine Ball Grid Array (FBGA484) - Flip Chip)
part A pins: C4 IO (io), C5 IO (io), C6 IO (io), C7 IO (io), C8 IO (io), C9 IO (io), C10 IO (io), C11 IO (io), C12 IO (io), C13 IO (io), C14 IO (io), C15 IO (io), C16 IO (io), C17 IO (io), C18 IO (io), C19 IO (io), D4 DATA5 (io), D5 IO (io), D6 IO (io), D7 IO (io), D8 DATA3 (io), D9 IO (io), D10 IO (io), D11 INPUT2 (in), D13 IO (io), D14 IO (io), D15 IO (io), D16 IO (io), D17 IO (io), D18 IO (io), E7 DATA4 (io), E8 IO (io), E9 IO (io), E10 IO (io), E13 IO (io), E14 IO (io), E15 IO (io), E16 IO (io), E17 IO (io), F8 IO (io), F9 IO (io), F10 IO (io), F11 IO (io), F12 INPUT1 (in), F13 IO (io), F14 IO (io), F15 IO (io), F16 IO (io), G8 VCCIO (power), G9 IO (io), G10 DATA2 (io), G11 IO (io), G12 RDYnBSY (io), G13 INIT_DONE (io), G14 IO (io), G15 IO (io), G17 IO (io), H10 IO (io), H11 DATA1 (io), H12 CLKUSR (io), H13 IO (io), H14 VCCIO (power), H16 IO (io), J10 VCCIO (power), J12 IO (io), K12 VCCIO (power)
part B pins: A15 IO (io), A16 IO (io), A17 IO (io), A18 IO (io), A19 IO (io), A20 IO (io), A21 IO (io), AA12 IO (io), AA13 IO (io), AA14 IO (io), AA15 IO (io), AA16 IO (io), AA17 IO (io), AA18 IO (io), AA19 IO (io), AA20 IO (io), AB15 IO (io), AB16 IO (io), AB17 IO (io), AB18 IO (io), AB19 IO (io), AB20 IO (io), AB21 IO (io), B12 IO (io), B13 IO (io), B14 IO (io), B15 IO (io), B16 IO (io), B17 IO (io), B18 IO (io), B19 IO (io), B20 IO (io), C20 IO (io), C21 IO (io), C22 IO (io), D19 IO (io), D20 IO (io), D21 IO (io), D22 IO (io), E18 IO (io), E19 IO (io), E20 IO (io), E21 IO (io), E22 IO (io), F18 IO (io), F19 IO (io), F20 IO (io), F21 IO (io), F22 IO (io), G18 IO (io), G19 IO (io), G20 IO (io), G21 IO (io), G22 IO (io), H17 IO (io), H18 IO (io), H19 IO (io), H20 IO (io), H21 IO (io), H22 IO (io), J15 VCCIO (power), J16 IO (io), J17 IO (io), J18 IO (io), J19 IO (io), J20 IO (io), J21 IO (io), J22 IO (io), K15 IO (io), K16 IO (io), K17 IO (io), K18 IO (io), K19 IO (io), K20 IO (io), K21 IO (io), K22 IO (io), L13 VCCIO (power), L14 IO (io), L15 IO (io), L16 IO (io), L17 IO (io), L20 IO (io), L21 IO (io), L22 VCCIO (power), M15 IO (io), M16 IO (io), M17 IO (io), M18 CLK1 (in), M20 IO (io), N14 VCCIO (power), N15 IO (io), N16 IO (io), N17 IO (io), N18 IO (io), N19 IO (io), N20 IO (io), N21 IO (io), N22 IO (io), P16 IO (io), P17 IO (io), P18 IO (io), P19 IO (io), P20 IO (io), P21 IO (io), P22 IO (io), R16 VCCIO (power), R17 IO (io), R18 IO (io), R19 IO (io), R20 IO (io), R21 IO (io), R22 IO (io), T17 IO (io), T18 IO (io), T19 IO (io), T20 IO (io), T21 IO (io), T22 IO (io), U19 IO (io), U20 IO (io), U21 IO (io), U22 IO (io), V19 IO (io), V20 IO (io), V21 IO (io), V22 IO (io), W19 IO (io), W20 IO (io), W21 IO (io), W22 IO (io), Y19 IO (io), Y20 IO (io), Y21 IO (io), Y22 IO (io)
part C pins: N11 VCCIO (power), P7 IO (io), P11 IO (io), P12 IO (io), P13 VCCIO (power), R9 VCCIO (power), R10 IO (io), R11 IO (io), R12 IO (io), R13 IO (io), T6 IO (io), T8 VCCIO (power), T9 IO (io), T10 IO (io), T11 IO (io), T12 IO (io), T13 IO (io), T14 IO (io), T15 VCCIO (power), U7 IO (io), U8 IO (io), U9 IO (io), U10 IO (io), U11 IO (io), U12 IO (io), U13 IO (io), U14 IO (io), U15 IO (io), U16 IO (io), U18 IO (io), V5 IO (io), V6 IO (io), V7 IO (io), V8 IO (io), V9 IO (io), V10 IO (io), V11 INPUT4 (in), V12 INPUT3 (in), V13 IO (io), V14 IO (io), V15 IO (io), V16 IO (io), V17 IO (io), V18 IO (io), W6 IO (io), W7 IO (io), W8 IO (io), W9 IO (io), W14 IO (io), W15 IO (io), W16 IO (io), W17 IO (io), W18 IO (io), Y5 IO (io), Y6 IO (io), Y7 IO (io), Y8 IO (io), Y9 IO (io), Y10 IO (io), Y11 IO (io), Y12 IO (io), Y13 IO (io), Y14 IO (io), Y15 IO (io), Y16 IO (io), Y17 IO (io), Y18 IO (io)
part D pins: A2 IO (io), A3 IO (io), A4 IO (io), A5 IO (io), A6 IO (io), A7 IO (io), A8 IO (io), AA3 IO (io), AA4 IO (io), AA5 IO (io), AA6 IO (io), AA7 IO (io), AA8 IO (io), AA9 IO (io), AA10 IO (io), AA11 IO (io), AB2 IO (io), AB3 IO (io), AB4 IO (io), AB5 IO (io), AB6 IO (io), AB7 IO (io), AB8 IO (io), B3 IO (io), B4 IO (io), B5 IO (io), B6 IO (io), B7 IO (io), B8 IO (io), B9 IO (io), B10 IO (io), B11 IO (io), C1 IO (io), C2 IO (io), C3 IO (io), D1 IO (io), D2 IO (io), D3 IO (io), E1 IO (io), E2 IO (io), E3 IO (io), E4 IO (io), E5 IO (io), E6 IO (io), F1 IO (io), F2 IO (io), F3 IO (io), F4 IO (io), F5 IO (io), F7 IO (io), G1 IO (io), G2 IO (io), G3 IO (io), G4 IO (io), G5 IO (io), G6 IO (io), H1 IO (io), H2 IO (io), H3 IO (io), H4 IO (io), H5 IO (io), H6 IO (io), H7 VCCIO (power), J1 IO (io), J2 IO (io), J3 IO (io), J4 IO (io), J5 IO (io), J6 DATA6 (io), J7 IO (io), K1 IO (io), K2 IO (io), K3 IO (io), K4 IO (io), K5 IO (io), K6 IO (io), K7 nCS (io), K8 DATA7 (io), K9 VCCIO (power), L1 VCCIO (power), L3 IO (io), L6 CLK2 (in), L7 IO (io), L8 nRS (io), M2 IO (io), M3 IO (io), M6 IO (io), M7 nWS (io), M8 IO (io), M10 VCCIO (power), N1 IO (io), N2 IO (io), N3 IO (io), N4 IO (io), N5 IO (io), N6 DEV_OE (io), N7 DEV_CLRn (io), N8 IO (io), P1 IO (io), P2 IO (io), P3 IO (io), P4 CS (io), P5 IO (io), P6 IO (io), P8 VCCIO (power), R1 IO (io), R2 IO (io), R3 IO (io), R4 LOCK (io), R5 IO (io), R6 IO (io), T1 IO (io), T2 IO (io), T3 IO (io), T4 IO (io), T5 IO (io), U1 IO (io), U2 IO (io), U3 IO (io), U4 IO (io), U5 IO (io), V1 IO (io), V2 IO (io), V3 IO (io), V4 IO (io), W1 IO (io), W2 IO (io), W3 IO (io), W4 IO (io), W5 IO (io), Y1 IO (io), Y2 IO (io), Y3 IO (io), Y4 IO (io)
part E pins: D12 TRST (in), E11 TDO (out), E12 nCEO (out), L4 DATA0 (in), L5 DCLK (in), L18 MSEL1 (in), L19 MSEL0 (in), M4 nCE (in), M5 TDI (in), M19 nCONFIG (in), W10 CONF_DONE (io), W11 nSTATUS (io), W12 TCK (in), W13 TMS (in)
part F pins: A1 GNDINT (power), A9 NC, A10 NC, A11 GNDINT (power), A12 NC, A13 NC, A14 NC, A22 GNDINT (power), AA1 VCCINT (power), AA2 GNDINT (power), AA21 GNDINT (power), AA22 VCCINT (power), AB1 GNDINT (power), AB9 NC, AB10 NC, AB11 GNDINT (power), AB12 NC, AB13 NC, AB14 NC, AB22 GNDINT (power), B1 VCCINT (power), B2 GNDINT (power), B21 GNDINT (power), B22 VCCINT (power), F6 GNDINT (power), F17 GNDINT (power), G7 GNDINT (power), G16 GNDINT (power), H8 GNDINT (power), H9 VCCINT (power), H15 GNDINT (power), J8 VCCINT (power), J9 GNDINT (power), J11 GNDINT (power), J13 VCCINT (power), J14 GNDINT (power), K10 GNDINT (power), K11 VCCINT (power), K13 GNDINT (power), K14 VCCINT (power), L2 GNDINT (power), L9 VCC_CKLK (power), L10 VCCINT (power), L11 GNDINT (power), L12 GNDINT (power), M1 GNDINT (power), M9 GND_CKLK (power), M11 GNDINT (power), M12 GNDINT (power), M13 VCCINT (power), M14 VCCINT (power), M21 GNDINT (power), M22 VCCINT (power), N9 VCCINT (power), N10 GNDINT (power), N12 VCCINT (power), N13 GNDINT (power), P9 GNDINT (power), P10 VCCINT (power), P14 GNDINT (power), P15 VCCINT (power), R7 VCCINT (power), R8 GNDINT (power), R14 VCCINT (power), R15 GNDINT (power), T7 GNDINT (power), T16 GNDINT (power), U6 GNDINT (power), U17 GNDINT (power)

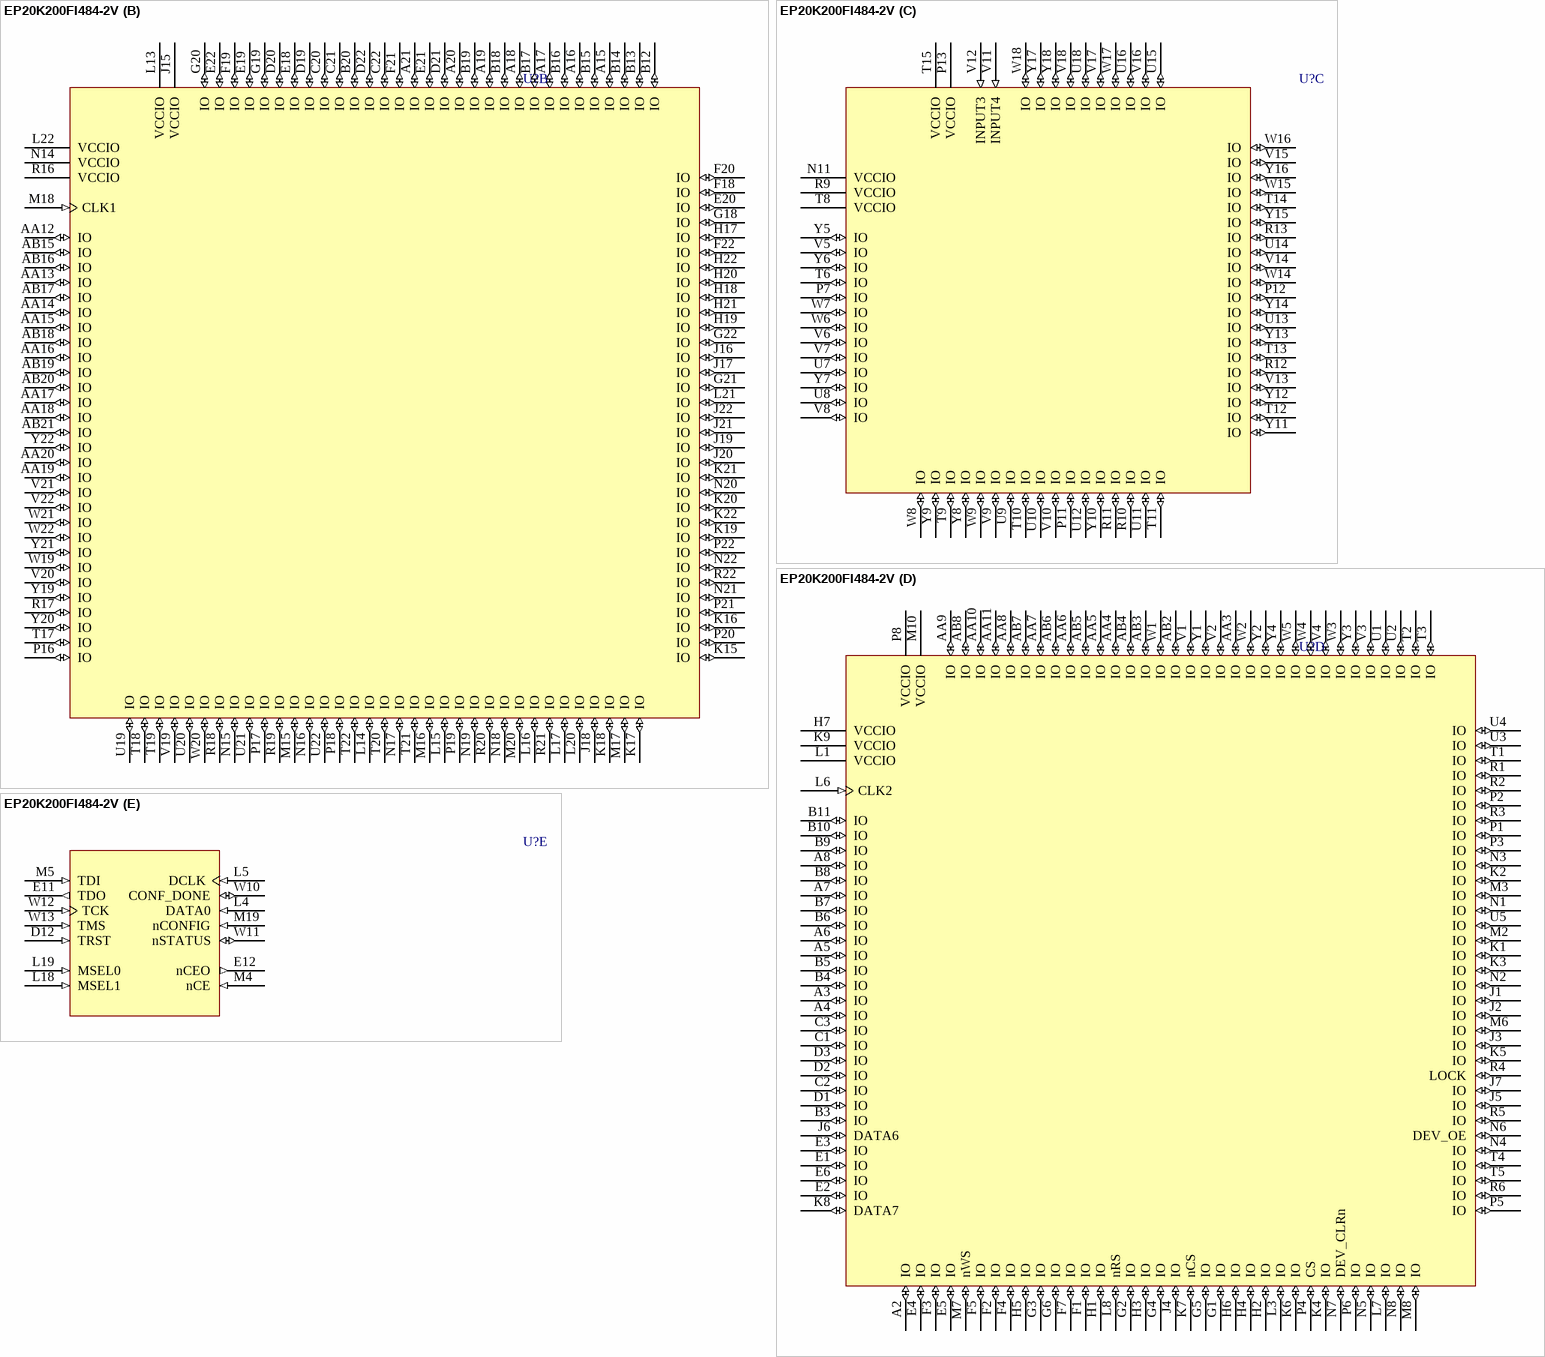
[diagram p69: symbol EP20K200FI484-2V]

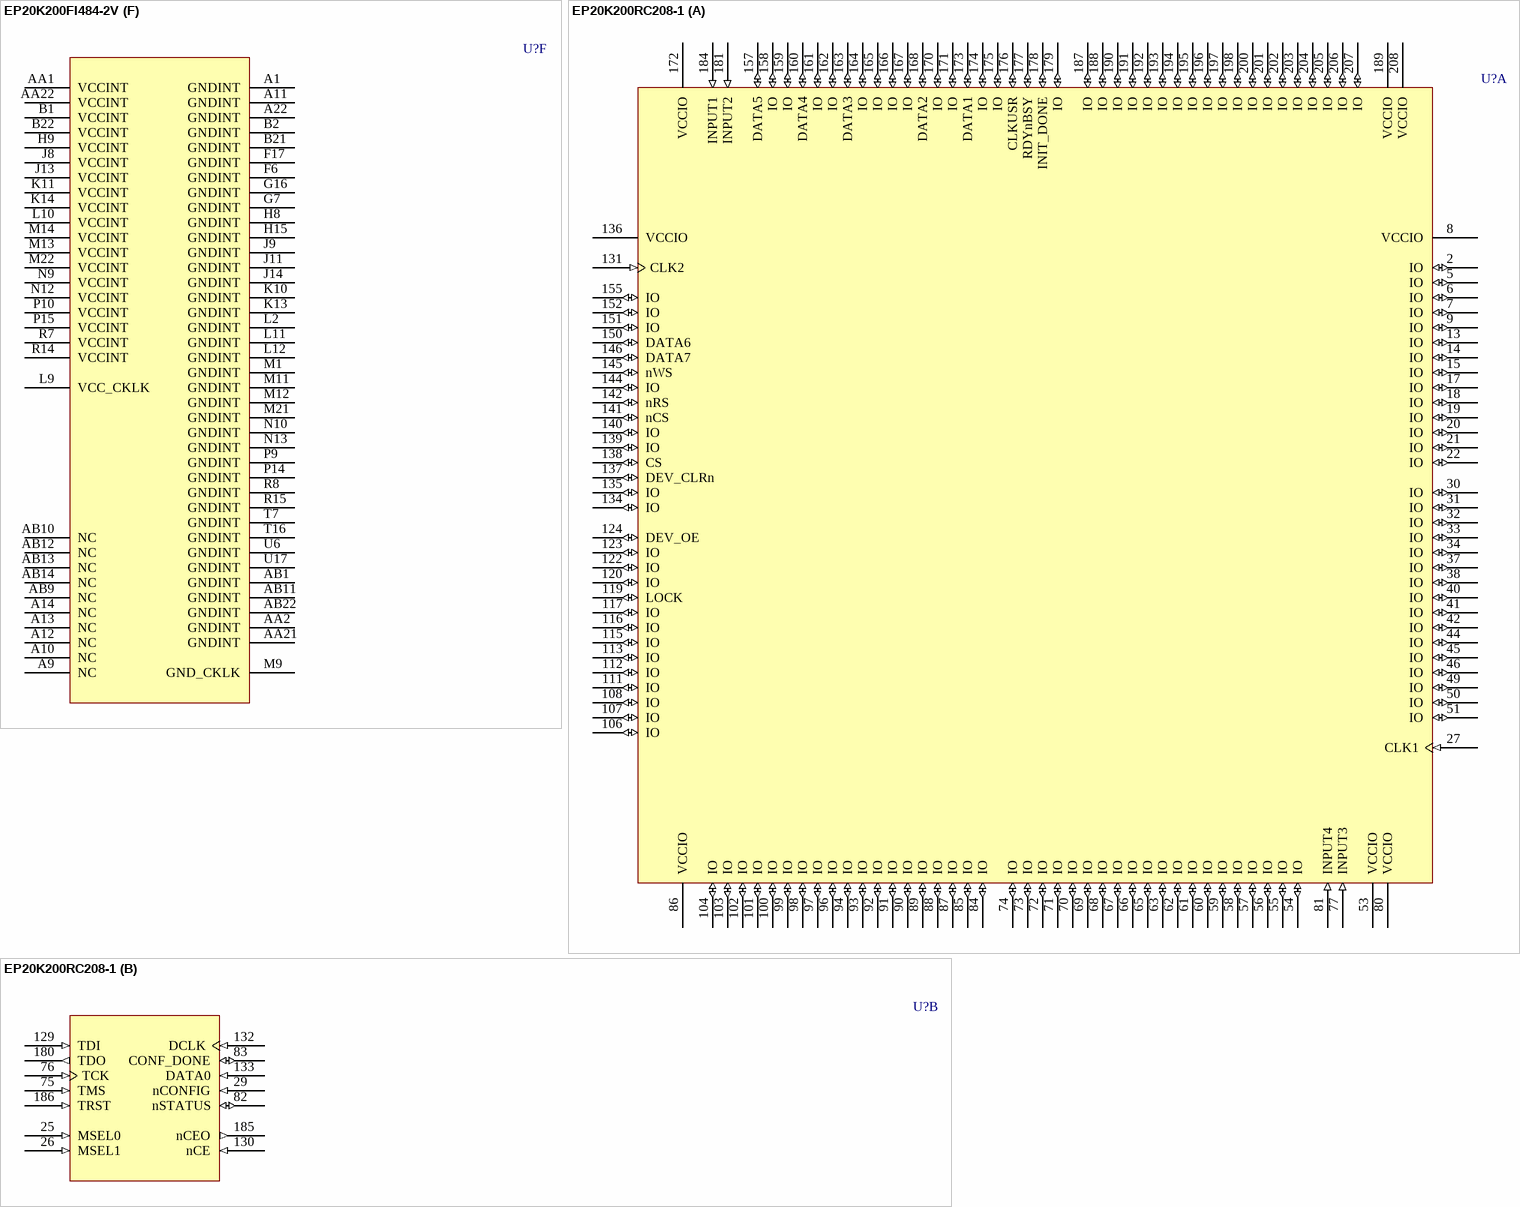
[diagram p70: symbols EP20K200FI484-2V to EP20K200RC208-1]

## EP20K200FI484-2V
designator U?
APEX 20K200  PLD with 5 V tolerant inputs, 484-Pin FBGA, Industrial Grade, Speed Grade 2; Published: 17-Jul-2002; LatestRevisionDate: 13-Apr-2006; LatestRevisionNote: IPC-7351 Footprint Added.; DatasheetVersion: ver5.1, Mar-2004; PackageVersion: ver16.0, Dec-2009; PackageReference: FBGA484; Publisher: Altium Limited; PackageDescription: 484-Ball FineLine Ball Grid Array (FBGA484) - Flip Chip; Code_JEDEC: MS-034-AAJ-1; Code_IPC: BGA100P22X22-484; ComponentLink1Description: Manufacturer Link; ComponentLink1URL: http://www.altera.com/products/devices/apex/apx-index.html; ComponentLink2Description: Datasheet; ComponentLink2URL: http://www.altera.com/literature/ds/apex.pdf
footprint FBGA484 (BGA, 484-Leads, Body 23x23mm, Pitch 1mm)
3D model EP20K200-FBGA484 (484-Ball FineLine Ball Grid Array (FBGA484) - Flip Chip)
part A pins: C4 IO (io), C5 IO (io), C6 IO (io), C7 IO (io), C8 IO (io), C9 IO (io), C10 IO (io), C11 IO (io), C12 IO (io), C13 IO (io), C14 IO (io), C15 IO (io), C16 IO (io), C17 IO (io), C18 IO (io), C19 IO (io), D4 DATA5 (io), D5 IO (io), D6 IO (io), D7 IO (io), D8 DATA3 (io), D9 IO (io), D10 IO (io), D11 INPUT2 (in), D13 IO (io), D14 IO (io), D15 IO (io), D16 IO (io), D17 IO (io), D18 IO (io), E7 DATA4 (io), E8 IO (io), E9 IO (io), E10 IO (io), E13 IO (io), E14 IO (io), E15 IO (io), E16 IO (io), E17 IO (io), F8 IO (io), F9 IO (io), F10 IO (io), F11 IO (io), F12 INPUT1 (in), F13 IO (io), F14 IO (io), F15 IO (io), F16 IO (io), G8 VCCIO (power), G9 IO (io), G10 DATA2 (io), G11 IO (io), G12 RDYnBSY (io), G13 INIT_DONE (io), G14 IO (io), G15 IO (io), G17 IO (io), H10 IO (io), H11 DATA1 (io), H12 CLKUSR (io), H13 IO (io), H14 VCCIO (power), H16 IO (io), J10 VCCIO (power), J12 IO (io), K12 VCCIO (power)
part B pins: A15 IO (io), A16 IO (io), A17 IO (io), A18 IO (io), A19 IO (io), A20 IO (io), A21 IO (io), AA12 IO (io), AA13 IO (io), AA14 IO (io), AA15 IO (io), AA16 IO (io), AA17 IO (io), AA18 IO (io), AA19 IO (io), AA20 IO (io), AB15 IO (io), AB16 IO (io), AB17 IO (io), AB18 IO (io), AB19 IO (io), AB20 IO (io), AB21 IO (io), B12 IO (io), B13 IO (io), B14 IO (io), B15 IO (io), B16 IO (io), B17 IO (io), B18 IO (io), B19 IO (io), B20 IO (io), C20 IO (io), C21 IO (io), C22 IO (io), D19 IO (io), D20 IO (io), D21 IO (io), D22 IO (io), E18 IO (io), E19 IO (io), E20 IO (io), E21 IO (io), E22 IO (io), F18 IO (io), F19 IO (io), F20 IO (io), F21 IO (io), F22 IO (io), G18 IO (io), G19 IO (io), G20 IO (io), G21 IO (io), G22 IO (io), H17 IO (io), H18 IO (io), H19 IO (io), H20 IO (io), H21 IO (io), H22 IO (io), J15 VCCIO (power), J16 IO (io), J17 IO (io), J18 IO (io), J19 IO (io), J20 IO (io), J21 IO (io), J22 IO (io), K15 IO (io), K16 IO (io), K17 IO (io), K18 IO (io), K19 IO (io), K20 IO (io), K21 IO (io), K22 IO (io), L13 VCCIO (power), L14 IO (io), L15 IO (io), L16 IO (io), L17 IO (io), L20 IO (io), L21 IO (io), L22 VCCIO (power), M15 IO (io), M16 IO (io), M17 IO (io), M18 CLK1 (in), M20 IO (io), N14 VCCIO (power), N15 IO (io), N16 IO (io), N17 IO (io), N18 IO (io), N19 IO (io), N20 IO (io), N21 IO (io), N22 IO (io), P16 IO (io), P17 IO (io), P18 IO (io), P19 IO (io), P20 IO (io), P21 IO (io), P22 IO (io), R16 VCCIO (power), R17 IO (io), R18 IO (io), R19 IO (io), R20 IO (io), R21 IO (io), R22 IO (io), T17 IO (io), T18 IO (io), T19 IO (io), T20 IO (io), T21 IO (io), T22 IO (io), U19 IO (io), U20 IO (io), U21 IO (io), U22 IO (io), V19 IO (io), V20 IO (io), V21 IO (io), V22 IO (io), W19 IO (io), W20 IO (io), W21 IO (io), W22 IO (io), Y19 IO (io), Y20 IO (io), Y21 IO (io), Y22 IO (io)
part C pins: N11 VCCIO (power), P7 IO (io), P11 IO (io), P12 IO (io), P13 VCCIO (power), R9 VCCIO (power), R10 IO (io), R11 IO (io), R12 IO (io), R13 IO (io), T6 IO (io), T8 VCCIO (power), T9 IO (io), T10 IO (io), T11 IO (io), T12 IO (io), T13 IO (io), T14 IO (io), T15 VCCIO (power), U7 IO (io), U8 IO (io), U9 IO (io), U10 IO (io), U11 IO (io), U12 IO (io), U13 IO (io), U14 IO (io), U15 IO (io), U16 IO (io), U18 IO (io), V5 IO (io), V6 IO (io), V7 IO (io), V8 IO (io), V9 IO (io), V10 IO (io), V11 INPUT4 (in), V12 INPUT3 (in), V13 IO (io), V14 IO (io), V15 IO (io), V16 IO (io), V17 IO (io), V18 IO (io), W6 IO (io), W7 IO (io), W8 IO (io), W9 IO (io), W14 IO (io), W15 IO (io), W16 IO (io), W17 IO (io), W18 IO (io), Y5 IO (io), Y6 IO (io), Y7 IO (io), Y8 IO (io), Y9 IO (io), Y10 IO (io), Y11 IO (io), Y12 IO (io), Y13 IO (io), Y14 IO (io), Y15 IO (io), Y16 IO (io), Y17 IO (io), Y18 IO (io)
part D pins: A2 IO (io), A3 IO (io), A4 IO (io), A5 IO (io), A6 IO (io), A7 IO (io), A8 IO (io), AA3 IO (io), AA4 IO (io), AA5 IO (io), AA6 IO (io), AA7 IO (io), AA8 IO (io), AA9 IO (io), AA10 IO (io), AA11 IO (io), AB2 IO (io), AB3 IO (io), AB4 IO (io), AB5 IO (io), AB6 IO (io), AB7 IO (io), AB8 IO (io), B3 IO (io), B4 IO (io), B5 IO (io), B6 IO (io), B7 IO (io), B8 IO (io), B9 IO (io), B10 IO (io), B11 IO (io), C1 IO (io), C2 IO (io), C3 IO (io), D1 IO (io), D2 IO (io), D3 IO (io), E1 IO (io), E2 IO (io), E3 IO (io), E4 IO (io), E5 IO (io), E6 IO (io), F1 IO (io), F2 IO (io), F3 IO (io), F4 IO (io), F5 IO (io), F7 IO (io), G1 IO (io), G2 IO (io), G3 IO (io), G4 IO (io), G5 IO (io), G6 IO (io), H1 IO (io), H2 IO (io), H3 IO (io), H4 IO (io), H5 IO (io), H6 IO (io), H7 VCCIO (power), J1 IO (io), J2 IO (io), J3 IO (io), J4 IO (io), J5 IO (io), J6 DATA6 (io), J7 IO (io), K1 IO (io), K2 IO (io), K3 IO (io), K4 IO (io), K5 IO (io), K6 IO (io), K7 nCS (io), K8 DATA7 (io), K9 VCCIO (power), L1 VCCIO (power), L3 IO (io), L6 CLK2 (in), L7 IO (io), L8 nRS (io), M2 IO (io), M3 IO (io), M6 IO (io), M7 nWS (io), M8 IO (io), M10 VCCIO (power), N1 IO (io), N2 IO (io), N3 IO (io), N4 IO (io), N5 IO (io), N6 DEV_OE (io), N7 DEV_CLRn (io), N8 IO (io), P1 IO (io), P2 IO (io), P3 IO (io), P4 CS (io), P5 IO (io), P6 IO (io), P8 VCCIO (power), R1 IO (io), R2 IO (io), R3 IO (io), R4 LOCK (io), R5 IO (io), R6 IO (io), T1 IO (io), T2 IO (io), T3 IO (io), T4 IO (io), T5 IO (io), U1 IO (io), U2 IO (io), U3 IO (io), U4 IO (io), U5 IO (io), V1 IO (io), V2 IO (io), V3 IO (io), V4 IO (io), W1 IO (io), W2 IO (io), W3 IO (io), W4 IO (io), W5 IO (io), Y1 IO (io), Y2 IO (io), Y3 IO (io), Y4 IO (io)
part E pins: D12 TRST (in), E11 TDO (out), E12 nCEO (out), L4 DATA0 (in), L5 DCLK (in), L18 MSEL1 (in), L19 MSEL0 (in), M4 nCE (in), M5 TDI (in), M19 nCONFIG (in), W10 CONF_DONE (io), W11 nSTATUS (io), W12 TCK (in), W13 TMS (in)
part F pins: A1 GNDINT (power), A9 NC, A10 NC, A11 GNDINT (power), A12 NC, A13 NC, A14 NC, A22 GNDINT (power), AA1 VCCINT (power), AA2 GNDINT (power), AA21 GNDINT (power), AA22 VCCINT (power), AB1 GNDINT (power), AB9 NC, AB10 NC, AB11 GNDINT (power), AB12 NC, AB13 NC, AB14 NC, AB22 GNDINT (power), B1 VCCINT (power), B2 GNDINT (power), B21 GNDINT (power), B22 VCCINT (power), F6 GNDINT (power), F17 GNDINT (power), G7 GNDINT (power), G16 GNDINT (power), H8 GNDINT (power), H9 VCCINT (power), H15 GNDINT (power), J8 VCCINT (power), J9 GNDINT (power), J11 GNDINT (power), J13 VCCINT (power), J14 GNDINT (power), K10 GNDINT (power), K11 VCCINT (power), K13 GNDINT (power), K14 VCCINT (power), L2 GNDINT (power), L9 VCC_CKLK (power), L10 VCCINT (power), L11 GNDINT (power), L12 GNDINT (power), M1 GNDINT (power), M9 GND_CKLK (power), M11 GNDINT (power), M12 GNDINT (power), M13 VCCINT (power), M14 VCCINT (power), M21 GNDINT (power), M22 VCCINT (power), N9 VCCINT (power), N10 GNDINT (power), N12 VCCINT (power), N13 GNDINT (power), P9 GNDINT (power), P10 VCCINT (power), P14 GNDINT (power), P15 VCCINT (power), R7 VCCINT (power), R8 GNDINT (power), R14 VCCINT (power), R15 GNDINT (power), T7 GNDINT (power), T16 GNDINT (power), U6 GNDINT (power), U17 GNDINT (power)

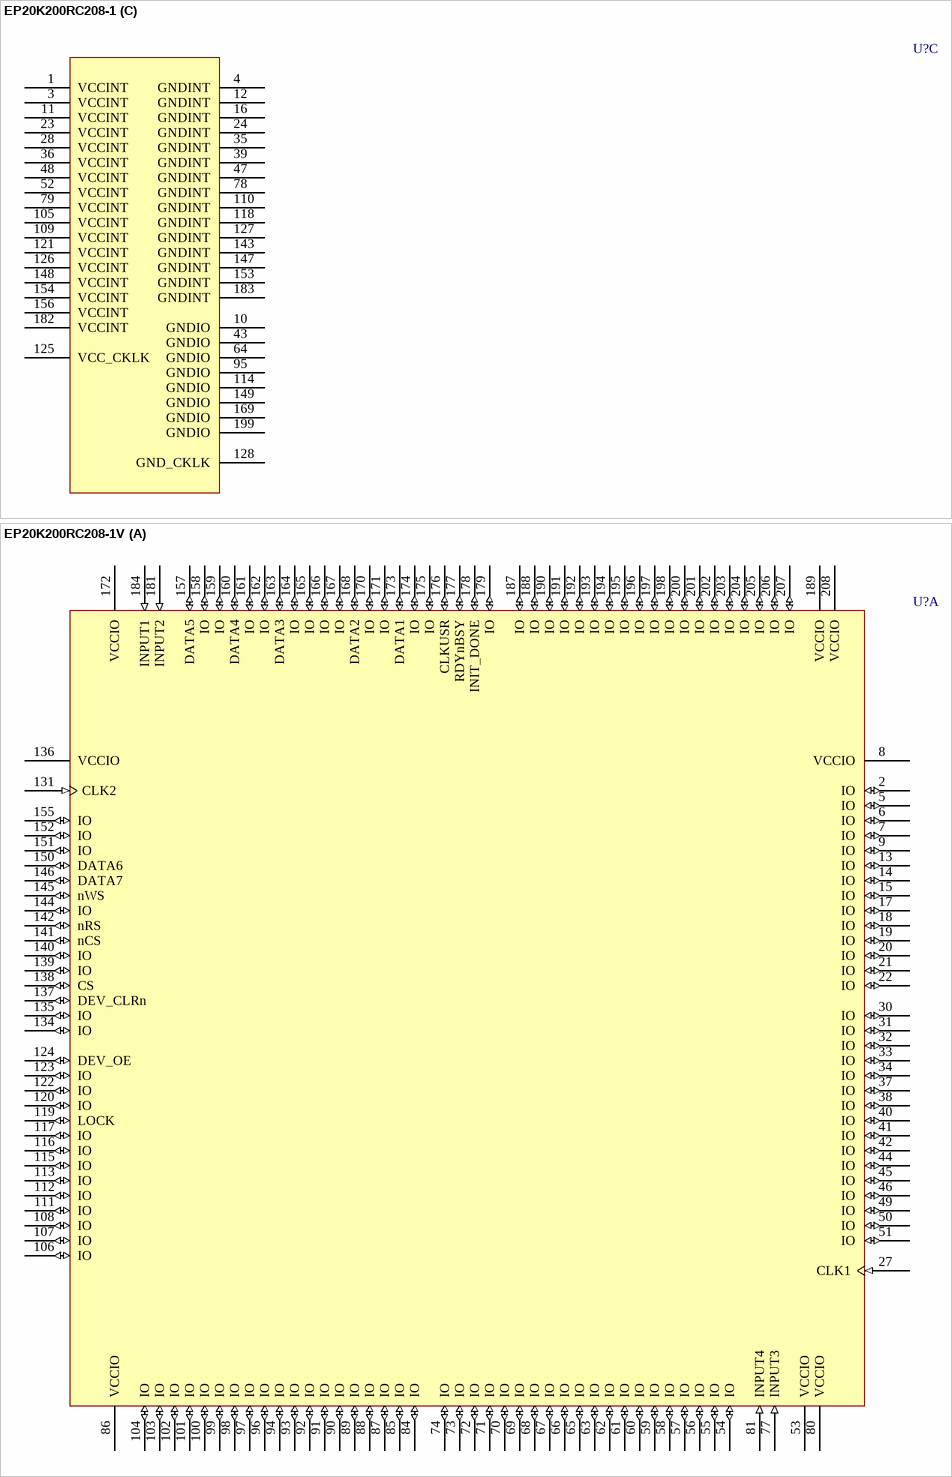
[diagram p71: symbols EP20K200RC208-1 to EP20K200RC208-1V]

## EP20K200RC208-1
designator U?
APEX 20K200 PLD, 208-Pin RQFP, Commercial Grade, Speed Grade 1; Published: 17-Jul-2002; LatestRevisionDate: 13-Apr-2006; LatestRevisionNote: IPC-7351 Footprint Added.; DatasheetVersion: ver5.1, Mar-2004; PackageVersion: ver14.3, Jul-2006; PackageReference: RQFP208; Publisher: Altium Limited; PackageDescription: 208-Pin Power Quad Flat Pack (RQFP208); Code_JEDEC: MS-029-FA-1; ComponentLink1Description: Manufacturer Link; ComponentLink1URL: http://www.altera.com/products/devices/apex/apx-index.html; ComponentLink2Description: Datasheet; ComponentLink2URL: http://www.altera.com/literature/ds/apex.pdf
footprint RQFP208_N (Shrink QFP, 208-Leads, Body 28x28mm, Pitch 0.5mm, IPC Medium Density)
footprint RQFP208_L (Shrink QFP, 208-Leads, Body 28x28mm, Pitch 0.5mm, IPC High Density)
footprint RQFP208_M (Shrink QFP, 208-Leads, Body 28x28mm, Pitch 0.5mm, IPC Low Density)
3D model EP20K200-RQFP208 (208-Pin Power Quad Flat Pack (RQFP208))
part A pins: 2 IO (io), 5 IO (io), 6 IO (io), 7 IO (io), 8 VCCIO (power), 9 IO (io), 13 IO (io), 14 IO (io), 15 IO (io), 17 IO (io), 18 IO (io), 19 IO (io), 20 IO (io), 21 IO (io), 22 IO (io), 27 CLK1 (in), 30 IO (io), 31 IO (io), 32 IO (io), 33 IO (io), 34 IO (io), 37 IO (io), 38 IO (io), 40 IO (io), 41 IO (io), 42 IO (io), 44 IO (io), 45 IO (io), 46 IO (io), 49 IO (io), 50 IO (io), 51 IO (io), 53 VCCIO (power), 54 IO (io), 55 IO (io), 56 IO (io), 57 IO (io), 58 IO (io), 59 IO (io), 60 IO (io), 61 IO (io), 62 IO (io), 63 IO (io), 65 IO (io), 66 IO (io), 67 IO (io), 68 IO (io), 69 IO (io), 70 IO (io), 71 IO (io), 72 IO (io), 73 IO (io), 74 IO (io), 77 INPUT3 (in), 80 VCCIO (power), 81 INPUT4 (in), 84 IO (io), 85 IO (io), 86 VCCIO (power), 87 IO (io), 88 IO (io), 89 IO (io), 90 IO (io), 91 IO (io), 92 IO (io), 93 IO (io), 94 IO (io), 96 IO (io), 97 IO (io), 98 IO (io), 99 IO (io), 100 IO (io), 101 IO (io), 102 IO (io), 103 IO (io), 104 IO (io), 106 IO (io), 107 IO (io), 108 IO (io), 111 IO (io), 112 IO (io), 113 IO (io), 115 IO (io), 116 IO (io), 117 IO (io), 119 LOCK (io), 120 IO (io), 122 IO (io), 123 IO (io), 124 DEV_OE (io), 131 CLK2 (in), 134 IO (io), 135 IO (io), 136 VCCIO (power), 137 DEV_CLRn (io), 138 CS (io), 139 IO (io), 140 IO (io), 141 nCS (io), 142 nRS (io), 144 IO (io), 145 nWS (io), 146 DATA7 (io), 150 DATA6 (io), 151 IO (io), 152 IO (io), 155 IO (io), 157 DATA5 (io), 158 IO (io), 159 IO (io), 160 DATA4 (io), 161 IO (io), 162 IO (io), 163 DATA3 (io), 164 IO (io), 165 IO (io), 166 IO (io), 167 IO (io), 168 DATA2 (io), 170 IO (io), 171 IO (io), 172 VCCIO (power), 173 DATA1 (io), 174 IO (io), 175 IO (io), 176 CLKUSR (io), 177 RDYnBSY (io), 178 INIT_DONE (io), 179 IO (io), 181 INPUT2 (in), 184 INPUT1 (in), 187 IO (io), 188 IO (io), 189 VCCIO (power), 190 IO (io), 191 IO (io), 192 IO (io), 193 IO (io), 194 IO (io), 195 IO (io), 196 IO (io), 197 IO (io), 198 IO (io), 200 IO (io), 201 IO (io), 202 IO (io), 203 IO (io), 204 IO (io), 205 IO (io), 206 IO (io), 207 IO (io), 208 VCCIO (power)
part B pins: 25 MSEL0 (in), 26 MSEL1 (in), 29 nCONFIG (in), 75 TMS (in), 76 TCK (in), 82 nSTATUS (io), 83 CONF_DONE (io), 129 TDI (in), 130 nCE (in), 132 DCLK (in), 133 DATA0 (in), 180 TDO (out), 185 nCEO (out), 186 TRST (in)
part C pins: 1 VCCINT (power), 3 VCCINT (power), 4 GNDINT (power), 10 GNDIO (power), 11 VCCINT (power), 12 GNDINT (power), 16 GNDINT (power), 23 VCCINT (power), 24 GNDINT (power), 28 VCCINT (power), 35 GNDINT (power), 36 VCCINT (power), 39 GNDINT (power), 43 GNDIO (power), 47 GNDINT (power), 48 VCCINT (power), 52 VCCINT (power), 64 GNDIO (power), 78 GNDINT (power), 79 VCCINT (power), 95 GNDIO (power), 105 VCCINT (power), 109 VCCINT (power), 110 GNDINT (power), 114 GNDIO (power), 118 GNDINT (power), 121 VCCINT (power), 125 VCC_CKLK (power), 126 VCCINT (power), 127 GNDINT (power), 128 GND_CKLK (power), 143 GNDINT (power), 147 GNDINT (power), 148 VCCINT (power), 149 GNDIO (power), 153 GNDINT (power), 154 VCCINT (power), 156 VCCINT (power), 169 GNDIO (power), 182 VCCINT (power), 183 GNDINT (power), 199 GNDIO (power)

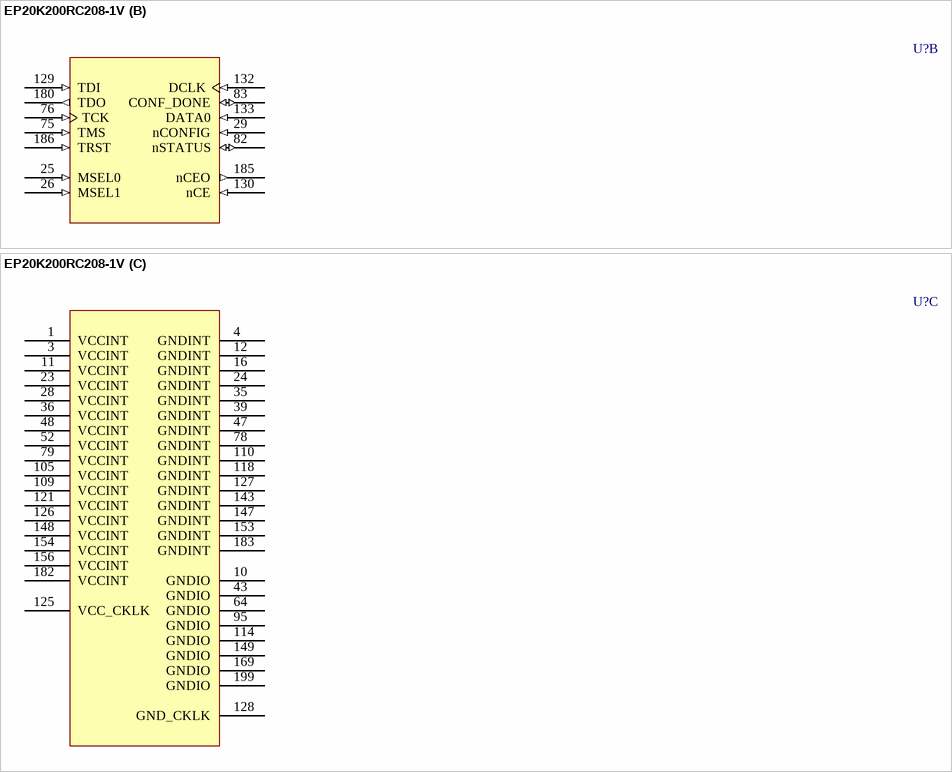
[diagram p72: symbol EP20K200RC208-1V]

## EP20K200RC208-1V
designator U?
APEX 20K100 PLD with 5 V tolerant inputs, 208-Pin PQFP, Commercial Grade, Speed Grade 1; Published: 17-Jul-2002; LatestRevisionDate: 13-Apr-2006; LatestRevisionNote: IPC-7351 Footprint Added.; DatasheetVersion: ver5.1, Mar-2004; PackageVersion: ver14.3, Jul-2006; PackageReference: RQFP208; Publisher: Altium Limited; PackageDescription: 208-Pin Power Quad Flat Pack (RQFP208); Code_JEDEC: MS-029-FA-1; ComponentLink1Description: Manufacturer Link; ComponentLink1URL: http://www.altera.com/products/devices/apex/apx-index.html; ComponentLink2Description: Datasheet; ComponentLink2URL: http://www.altera.com/literature/ds/apex.pdf
footprint RQFP208_N (Shrink QFP, 208-Leads, Body 28x28mm, Pitch 0.5mm, IPC Medium Density)
footprint RQFP208_L (Shrink QFP, 208-Leads, Body 28x28mm, Pitch 0.5mm, IPC High Density)
footprint RQFP208_M (Shrink QFP, 208-Leads, Body 28x28mm, Pitch 0.5mm, IPC Low Density)
3D model EP20K200-RQFP208 (208-Pin Power Quad Flat Pack (RQFP208))
part A pins: 2 IO (io), 5 IO (io), 6 IO (io), 7 IO (io), 8 VCCIO (power), 9 IO (io), 13 IO (io), 14 IO (io), 15 IO (io), 17 IO (io), 18 IO (io), 19 IO (io), 20 IO (io), 21 IO (io), 22 IO (io), 27 CLK1 (in), 30 IO (io), 31 IO (io), 32 IO (io), 33 IO (io), 34 IO (io), 37 IO (io), 38 IO (io), 40 IO (io), 41 IO (io), 42 IO (io), 44 IO (io), 45 IO (io), 46 IO (io), 49 IO (io), 50 IO (io), 51 IO (io), 53 VCCIO (power), 54 IO (io), 55 IO (io), 56 IO (io), 57 IO (io), 58 IO (io), 59 IO (io), 60 IO (io), 61 IO (io), 62 IO (io), 63 IO (io), 65 IO (io), 66 IO (io), 67 IO (io), 68 IO (io), 69 IO (io), 70 IO (io), 71 IO (io), 72 IO (io), 73 IO (io), 74 IO (io), 77 INPUT3 (in), 80 VCCIO (power), 81 INPUT4 (in), 84 IO (io), 85 IO (io), 86 VCCIO (power), 87 IO (io), 88 IO (io), 89 IO (io), 90 IO (io), 91 IO (io), 92 IO (io), 93 IO (io), 94 IO (io), 96 IO (io), 97 IO (io), 98 IO (io), 99 IO (io), 100 IO (io), 101 IO (io), 102 IO (io), 103 IO (io), 104 IO (io), 106 IO (io), 107 IO (io), 108 IO (io), 111 IO (io), 112 IO (io), 113 IO (io), 115 IO (io), 116 IO (io), 117 IO (io), 119 LOCK (io), 120 IO (io), 122 IO (io), 123 IO (io), 124 DEV_OE (io), 131 CLK2 (in), 134 IO (io), 135 IO (io), 136 VCCIO (power), 137 DEV_CLRn (io), 138 CS (io), 139 IO (io), 140 IO (io), 141 nCS (io), 142 nRS (io), 144 IO (io), 145 nWS (io), 146 DATA7 (io), 150 DATA6 (io), 151 IO (io), 152 IO (io), 155 IO (io), 157 DATA5 (io), 158 IO (io), 159 IO (io), 160 DATA4 (io), 161 IO (io), 162 IO (io), 163 DATA3 (io), 164 IO (io), 165 IO (io), 166 IO (io), 167 IO (io), 168 DATA2 (io), 170 IO (io), 171 IO (io), 172 VCCIO (power), 173 DATA1 (io), 174 IO (io), 175 IO (io), 176 CLKUSR (io), 177 RDYnBSY (io), 178 INIT_DONE (io), 179 IO (io), 181 INPUT2 (in), 184 INPUT1 (in), 187 IO (io), 188 IO (io), 189 VCCIO (power), 190 IO (io), 191 IO (io), 192 IO (io), 193 IO (io), 194 IO (io), 195 IO (io), 196 IO (io), 197 IO (io), 198 IO (io), 200 IO (io), 201 IO (io), 202 IO (io), 203 IO (io), 204 IO (io), 205 IO (io), 206 IO (io), 207 IO (io), 208 VCCIO (power)
part B pins: 25 MSEL0 (in), 26 MSEL1 (in), 29 nCONFIG (in), 75 TMS (in), 76 TCK (in), 82 nSTATUS (io), 83 CONF_DONE (io), 129 TDI (in), 130 nCE (in), 132 DCLK (in), 133 DATA0 (in), 180 TDO (out), 185 nCEO (out), 186 TRST (in)
part C pins: 1 VCCINT (power), 3 VCCINT (power), 4 GNDINT (power), 10 GNDIO (power), 11 VCCINT (power), 12 GNDINT (power), 16 GNDINT (power), 23 VCCINT (power), 24 GNDINT (power), 28 VCCINT (power), 35 GNDINT (power), 36 VCCINT (power), 39 GNDINT (power), 43 GNDIO (power), 47 GNDINT (power), 48 VCCINT (power), 52 VCCINT (power), 64 GNDIO (power), 78 GNDINT (power), 79 VCCINT (power), 95 GNDIO (power), 105 VCCINT (power), 109 VCCINT (power), 110 GNDINT (power), 114 GNDIO (power), 118 GNDINT (power), 121 VCCINT (power), 125 VCC_CKLK (power), 126 VCCINT (power), 127 GNDINT (power), 128 GND_CKLK (power), 143 GNDINT (power), 147 GNDINT (power), 148 VCCINT (power), 149 GNDIO (power), 153 GNDINT (power), 154 VCCINT (power), 156 VCCINT (power), 169 GNDIO (power), 182 VCCINT (power), 183 GNDINT (power), 199 GNDIO (power)

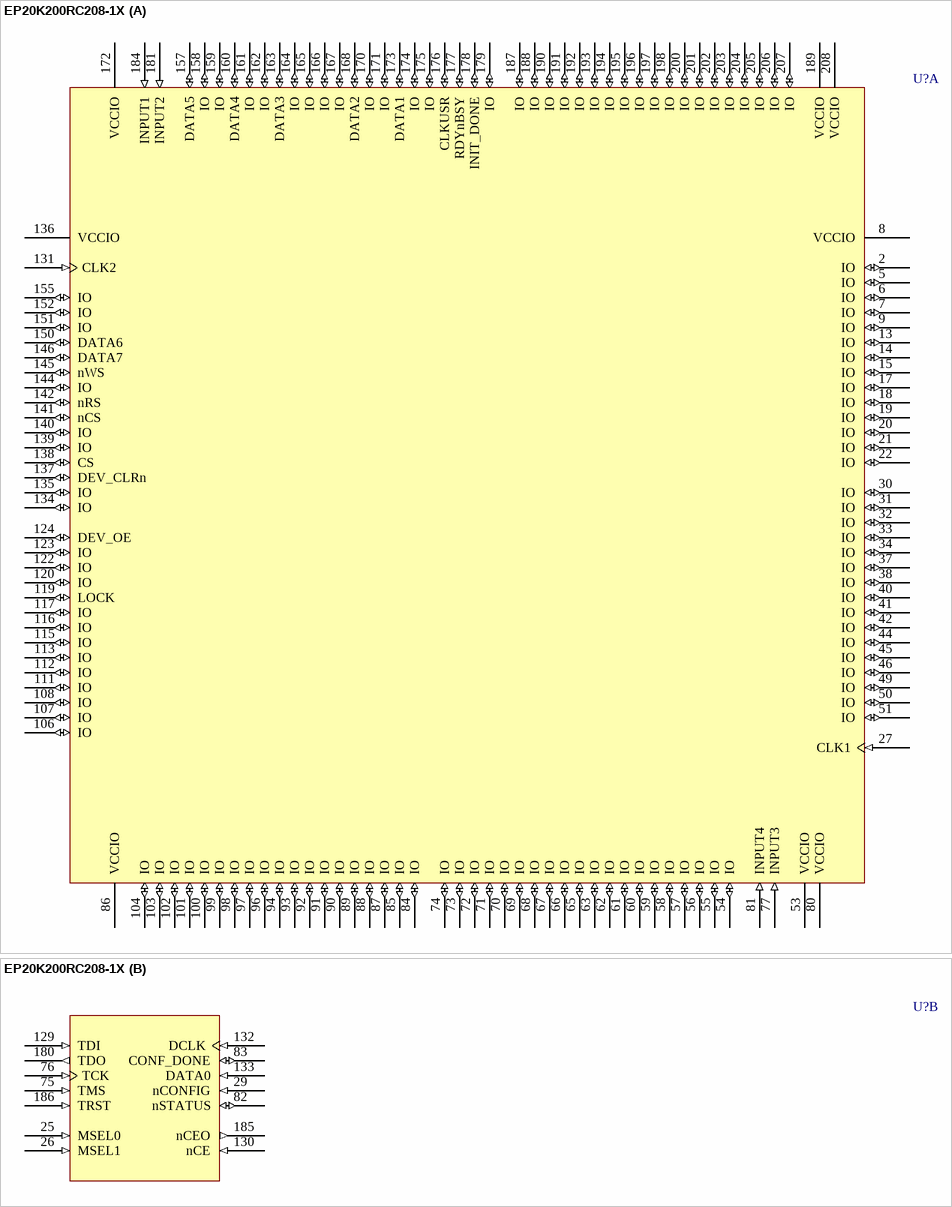
[diagram p73: symbol EP20K200RC208-1X]

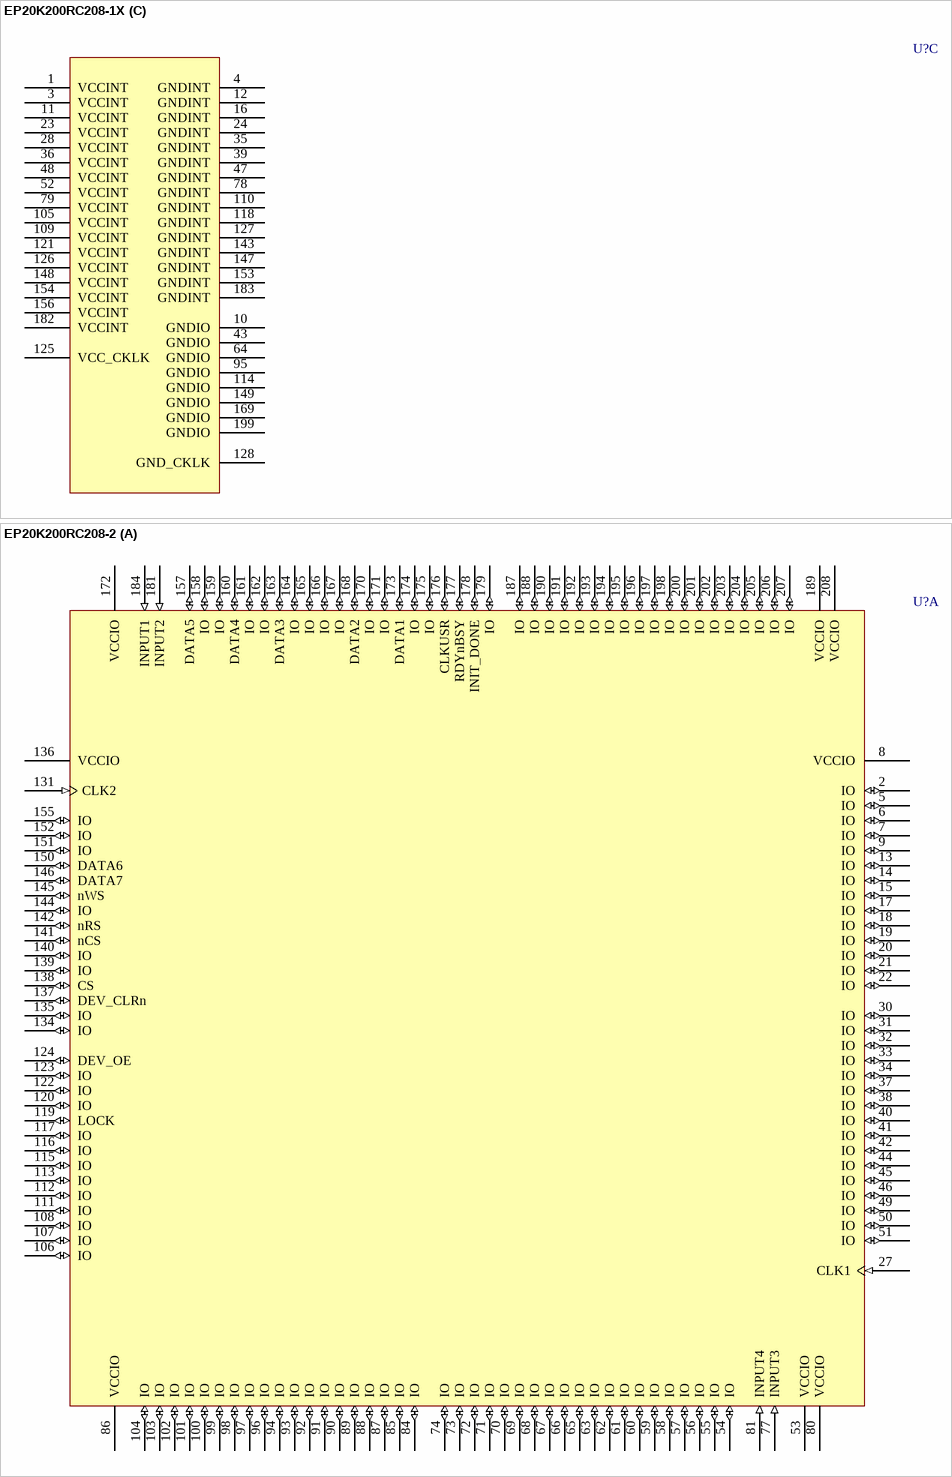
[diagram p74: symbols EP20K200RC208-1X to EP20K200RC208-2]